# Altium integrated library Freescale Semiconductor DSC.IntLib: 124 symbols (part 1 of 7)
Pins are listed as number, name and electrical type; pins without a type are passive.

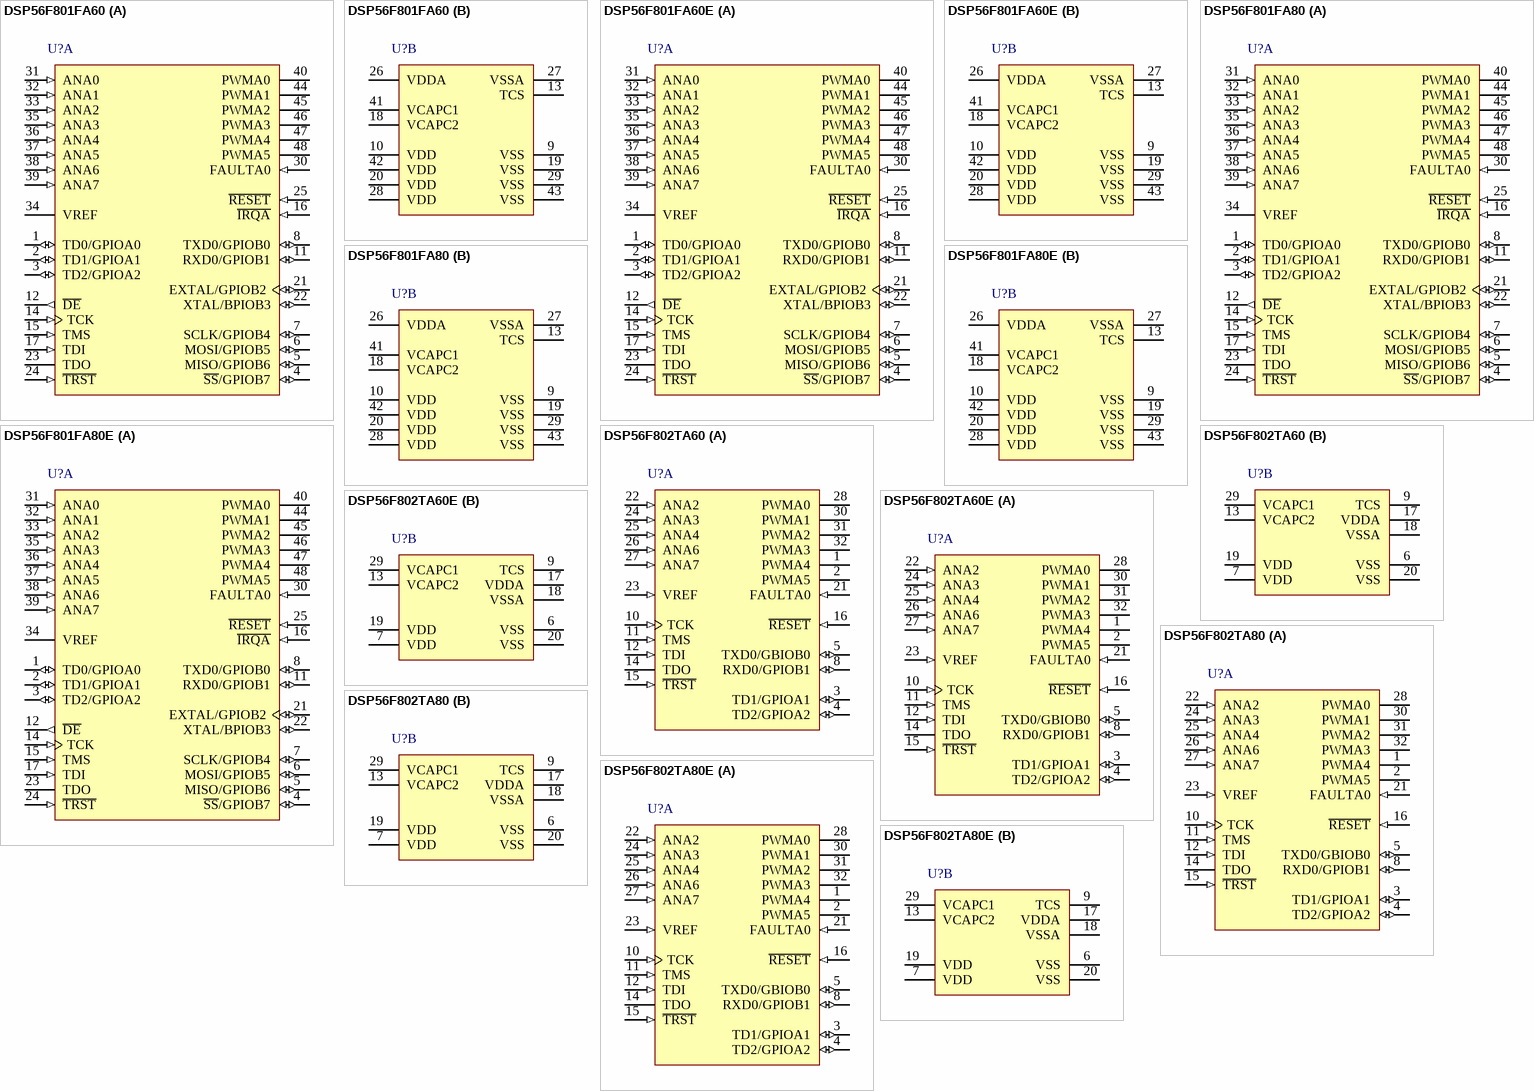
[diagram p0: symbols DSP56F801FA60 to DSP56F802TA80E]

## DSP56F801FA60
designator U?
16-Bit Digital Signal Controller, 56800E Family, 60MHZ, 16KB Flash, -40° to + 85°C, 48-LQFP; DatasheetVersion: rev17, Sep-2007; PackageVersion: revG, Apr-2005; PackageReference: 932-03; PackageDescription: LQFP, 48 Lead, 7 x 7 x 1.4mm, 0.5mm Pitch; Code_JEDEC: MS-026-BBC; ComponentLink1Description: Manufacturer URL; ComponentLink1URL: http://www.freescale.com/
footprint 932-03_N (Thin QFP, 48-Leads, Body 7x7mm, Pitch 0.5mm, IPC Medium Density)
footprint 932-03_L (Thin QFP, 48-Leads, Body 7x7mm, Pitch 0.5mm, IPC High Density)
footprint 932-03_M (Thin QFP, 48-Leads, Body 7x7mm, Pitch 0.5mm, IPC Low Density)
part A pins: 1 TD0/GPIOA0 (io), 2 TD1/GPIOA1 (io), 3 TD2/GPIOA2 (io), 4 ~{SS}/GPIOB7 (io), 5 MISO/GPIOB6 (io), 6 MOSI/GPIOB5 (io), 7 SCLK/GPIOB4 (io), 8 TXD0/GPIOB0 (io), 11 RXD0/GPIOB1 (io), 12 ~{DE} (out), 14 TCK (in), 15 TMS (in), 16 ~{IRQA} (in), 17 TDI (in), 21 EXTAL/GPIOB2 (io), 22 XTAL/BPIOB3 (io), 23 TDO (hiz), 24 ~{TRST} (in), 25 ~{RESET} (in), 30 FAULTA0 (in), 31 ANA0 (in), 32 ANA1 (in), 33 ANA2 (in), 34 VREF, 35 ANA3 (in), 36 ANA4 (in), 37 ANA5 (in), 38 ANA6 (in), 39 ANA7 (in), 40 PWMA0 (hiz), 44 PWMA1 (hiz), 45 PWMA2 (hiz), 46 PWMA3 (hiz), 47 PWMA4 (hiz), 48 PWMA5 (hiz)
part B pins: 9 VSS (power), 10 VDD (power), 13 TCS, 18 VCAPC2 (power), 19 VSS (power), 20 VDD (power), 26 VDDA (power), 27 VSSA (power), 28 VDD (power), 29 VSS (power), 41 VCAPC1 (power), 42 VDD (power), 43 VSS (power)

## DSP56F801FA60E
designator U?
16-Bit Digital Signal Controller, 56800E Family, 60MHZ, 16KB Flash, -40° to + 85°C, 48-LQFP, ROHS; DatasheetVersion: rev17, Sep-2007; PackageVersion: revG, Apr-2005; PackageReference: 932-03; PackageDescription: LQFP, 48 Lead, 7 x 7 x 1.4mm, 0.5mm Pitch; Code_JEDEC: MS-026-BBC; ComponentLink1Description: Manufacturer URL; ComponentLink1URL: http://www.freescale.com/
footprint 932-03_N (Thin QFP, 48-Leads, Body 7x7mm, Pitch 0.5mm, IPC Medium Density)
footprint 932-03_L (Thin QFP, 48-Leads, Body 7x7mm, Pitch 0.5mm, IPC High Density)
footprint 932-03_M (Thin QFP, 48-Leads, Body 7x7mm, Pitch 0.5mm, IPC Low Density)
part A pins: 1 TD0/GPIOA0 (io), 2 TD1/GPIOA1 (io), 3 TD2/GPIOA2 (io), 4 ~{SS}/GPIOB7 (io), 5 MISO/GPIOB6 (io), 6 MOSI/GPIOB5 (io), 7 SCLK/GPIOB4 (io), 8 TXD0/GPIOB0 (io), 11 RXD0/GPIOB1 (io), 12 ~{DE} (out), 14 TCK (in), 15 TMS (in), 16 ~{IRQA} (in), 17 TDI (in), 21 EXTAL/GPIOB2 (io), 22 XTAL/BPIOB3 (io), 23 TDO (hiz), 24 ~{TRST} (in), 25 ~{RESET} (in), 30 FAULTA0 (in), 31 ANA0 (in), 32 ANA1 (in), 33 ANA2 (in), 34 VREF, 35 ANA3 (in), 36 ANA4 (in), 37 ANA5 (in), 38 ANA6 (in), 39 ANA7 (in), 40 PWMA0 (hiz), 44 PWMA1 (hiz), 45 PWMA2 (hiz), 46 PWMA3 (hiz), 47 PWMA4 (hiz), 48 PWMA5 (hiz)
part B pins: 9 VSS (power), 10 VDD (power), 13 TCS, 18 VCAPC2 (power), 19 VSS (power), 20 VDD (power), 26 VDDA (power), 27 VSSA (power), 28 VDD (power), 29 VSS (power), 41 VCAPC1 (power), 42 VDD (power), 43 VSS (power)

## DSP56F801FA80
designator U?
16-Bit Digital Signal Controller, 56800E Family, 80MHZ, 16KB Flash, -40° to + 85°C, 48-LQFP; DatasheetVersion: rev17, Sep-2007; PackageVersion: revG, Apr-2005; PackageReference: 932-03; PackageDescription: LQFP, 48 Lead, 7 x 7 x 1.4mm, 0.5mm Pitch; Code_JEDEC: MS-026-BBC; ComponentLink1Description: Manufacturer URL; ComponentLink1URL: http://www.freescale.com/
footprint 932-03_N (Thin QFP, 48-Leads, Body 7x7mm, Pitch 0.5mm, IPC Medium Density)
footprint 932-03_L (Thin QFP, 48-Leads, Body 7x7mm, Pitch 0.5mm, IPC High Density)
footprint 932-03_M (Thin QFP, 48-Leads, Body 7x7mm, Pitch 0.5mm, IPC Low Density)
part A pins: 1 TD0/GPIOA0 (io), 2 TD1/GPIOA1 (io), 3 TD2/GPIOA2 (io), 4 ~{SS}/GPIOB7 (io), 5 MISO/GPIOB6 (io), 6 MOSI/GPIOB5 (io), 7 SCLK/GPIOB4 (io), 8 TXD0/GPIOB0 (io), 11 RXD0/GPIOB1 (io), 12 ~{DE} (out), 14 TCK (in), 15 TMS (in), 16 ~{IRQA} (in), 17 TDI (in), 21 EXTAL/GPIOB2 (io), 22 XTAL/BPIOB3 (io), 23 TDO (hiz), 24 ~{TRST} (in), 25 ~{RESET} (in), 30 FAULTA0 (in), 31 ANA0 (in), 32 ANA1 (in), 33 ANA2 (in), 34 VREF, 35 ANA3 (in), 36 ANA4 (in), 37 ANA5 (in), 38 ANA6 (in), 39 ANA7 (in), 40 PWMA0 (hiz), 44 PWMA1 (hiz), 45 PWMA2 (hiz), 46 PWMA3 (hiz), 47 PWMA4 (hiz), 48 PWMA5 (hiz)
part B pins: 9 VSS (power), 10 VDD (power), 13 TCS, 18 VCAPC2 (power), 19 VSS (power), 20 VDD (power), 26 VDDA (power), 27 VSSA (power), 28 VDD (power), 29 VSS (power), 41 VCAPC1 (power), 42 VDD (power), 43 VSS (power)

## DSP56F801FA80E
designator U?
16-Bit Digital Signal Controller, 56800E Family, 80MHZ, 16KB Flash, -40° to + 85°C, 48-LQFP, ROHS; DatasheetVersion: rev17, Sep-2007; PackageVersion: revG, Apr-2005; PackageReference: 932-03; PackageDescription: LQFP, 48 Lead, 7 x 7 x 1.4mm, 0.5mm Pitch; Code_JEDEC: MS-026-BBC; ComponentLink1Description: Manufacturer URL; ComponentLink1URL: http://www.freescale.com/
footprint 932-03_N (Thin QFP, 48-Leads, Body 7x7mm, Pitch 0.5mm, IPC Medium Density)
footprint 932-03_L (Thin QFP, 48-Leads, Body 7x7mm, Pitch 0.5mm, IPC High Density)
footprint 932-03_M (Thin QFP, 48-Leads, Body 7x7mm, Pitch 0.5mm, IPC Low Density)
part A pins: 1 TD0/GPIOA0 (io), 2 TD1/GPIOA1 (io), 3 TD2/GPIOA2 (io), 4 ~{SS}/GPIOB7 (io), 5 MISO/GPIOB6 (io), 6 MOSI/GPIOB5 (io), 7 SCLK/GPIOB4 (io), 8 TXD0/GPIOB0 (io), 11 RXD0/GPIOB1 (io), 12 ~{DE} (out), 14 TCK (in), 15 TMS (in), 16 ~{IRQA} (in), 17 TDI (in), 21 EXTAL/GPIOB2 (io), 22 XTAL/BPIOB3 (io), 23 TDO (hiz), 24 ~{TRST} (in), 25 ~{RESET} (in), 30 FAULTA0 (in), 31 ANA0 (in), 32 ANA1 (in), 33 ANA2 (in), 34 VREF, 35 ANA3 (in), 36 ANA4 (in), 37 ANA5 (in), 38 ANA6 (in), 39 ANA7 (in), 40 PWMA0 (hiz), 44 PWMA1 (hiz), 45 PWMA2 (hiz), 46 PWMA3 (hiz), 47 PWMA4 (hiz), 48 PWMA5 (hiz)
part B pins: 9 VSS (power), 10 VDD (power), 13 TCS, 18 VCAPC2 (power), 19 VSS (power), 20 VDD (power), 26 VDDA (power), 27 VSSA (power), 28 VDD (power), 29 VSS (power), 41 VCAPC1 (power), 42 VDD (power), 43 VSS (power)

## DSP56F802TA60
designator U?
16-Bit Digital Signal Controller, 56800E Family, 60MHZ, 16KB Flash, -40° to + 85°C, 32-LQFP; DatasheetVersion: rev9, Jan-2007; PackageVersion: rev9, Jan-2007; PackageReference: 873A-03; PackageDescription: 32-Pin Thin Quad Flat Pack, 7 x 7 mm Body, 0.8 mm Pitch; ComponentLink1Description: Manufacturer URL; ComponentLink1URL: http://www.freescale.com/
footprint 873A-03_N (Thin QFP, 32-Leads, Body 7x7mm, Pitch 0.8mm, IPC Medium Density)
footprint 873A-03_L (Thin QFP, 32-Leads, Body 7x7mm, Pitch 0.8mm, IPC High Density)
footprint 873A-03_M (Thin QFP, 32-Leads, Body 7x7mm, Pitch 0.8mm, IPC Low Density)
part A pins: 1 PWMA4 (hiz), 2 PWMA5 (hiz), 3 TD1/GPIOA1 (io), 4 TD2/GPIOA2 (io), 5 TXD0/GBIOB0 (io), 8 RXD0/GPIOB1 (io), 10 TCK (in), 11 TMS (in), 12 TDI (in), 14 TDO (hiz), 15 ~{TRST} (in), 16 ~{RESET} (in), 21 FAULTA0 (in), 22 ANA2 (in), 23 VREF (in), 24 ANA3 (in), 25 ANA4 (in), 26 ANA6 (in), 27 ANA7 (in), 28 PWMA0 (hiz), 30 PWMA1 (hiz), 31 PWMA2 (hiz), 32 PWMA3 (hiz)
part B pins: 6 VSS (power), 7 VDD (power), 9 TCS, 13 VCAPC2 (power), 17 VDDA (power), 18 VSSA (power), 19 VDD (power), 20 VSS (power), 29 VCAPC1 (power)

## DSP56F802TA60E
designator U?
16-Bit Digital Signal Controller, 56800E Family, 60MHZ, 16KB Flash, -40° to + 85°C, 32-LQFP, ROHS; DatasheetVersion: rev9, Jan-2007; PackageVersion: rev9, Jan-2007; PackageReference: 873A-03; PackageDescription: 32-Pin Thin Quad Flat Pack, 7 x 7 mm Body, 0.8 mm Pitch; ComponentLink1Description: Manufacturer URL; ComponentLink1URL: http://www.freescale.com/
footprint 873A-03_N (Thin QFP, 32-Leads, Body 7x7mm, Pitch 0.8mm, IPC Medium Density)
footprint 873A-03_L (Thin QFP, 32-Leads, Body 7x7mm, Pitch 0.8mm, IPC High Density)
footprint 873A-03_M (Thin QFP, 32-Leads, Body 7x7mm, Pitch 0.8mm, IPC Low Density)
part A pins: 1 PWMA4 (hiz), 2 PWMA5 (hiz), 3 TD1/GPIOA1 (io), 4 TD2/GPIOA2 (io), 5 TXD0/GBIOB0 (io), 8 RXD0/GPIOB1 (io), 10 TCK (in), 11 TMS (in), 12 TDI (in), 14 TDO (hiz), 15 ~{TRST} (in), 16 ~{RESET} (in), 21 FAULTA0 (in), 22 ANA2 (in), 23 VREF (in), 24 ANA3 (in), 25 ANA4 (in), 26 ANA6 (in), 27 ANA7 (in), 28 PWMA0 (hiz), 30 PWMA1 (hiz), 31 PWMA2 (hiz), 32 PWMA3 (hiz)
part B pins: 6 VSS (power), 7 VDD (power), 9 TCS, 13 VCAPC2 (power), 17 VDDA (power), 18 VSSA (power), 19 VDD (power), 20 VSS (power), 29 VCAPC1 (power)

## DSP56F802TA80
designator U?
16-Bit Digital Signal Controller, 56800E Family, 80MHZ, 16KB Flash, -40° to + 85°C, 32-LQFP; DatasheetVersion: rev9, Jan-2007; PackageVersion: rev9, Jan-2007; PackageReference: 873A-03; PackageDescription: 32-Pin Thin Quad Flat Pack, 7 x 7 mm Body, 0.8 mm Pitch; ComponentLink1Description: Manufacturer URL; ComponentLink1URL: http://www.freescale.com/
footprint 873A-03_N (Thin QFP, 32-Leads, Body 7x7mm, Pitch 0.8mm, IPC Medium Density)
footprint 873A-03_L (Thin QFP, 32-Leads, Body 7x7mm, Pitch 0.8mm, IPC High Density)
footprint 873A-03_M (Thin QFP, 32-Leads, Body 7x7mm, Pitch 0.8mm, IPC Low Density)
part A pins: 1 PWMA4 (hiz), 2 PWMA5 (hiz), 3 TD1/GPIOA1 (io), 4 TD2/GPIOA2 (io), 5 TXD0/GBIOB0 (io), 8 RXD0/GPIOB1 (io), 10 TCK (in), 11 TMS (in), 12 TDI (in), 14 TDO (hiz), 15 ~{TRST} (in), 16 ~{RESET} (in), 21 FAULTA0 (in), 22 ANA2 (in), 23 VREF (in), 24 ANA3 (in), 25 ANA4 (in), 26 ANA6 (in), 27 ANA7 (in), 28 PWMA0 (hiz), 30 PWMA1 (hiz), 31 PWMA2 (hiz), 32 PWMA3 (hiz)
part B pins: 6 VSS (power), 7 VDD (power), 9 TCS, 13 VCAPC2 (power), 17 VDDA (power), 18 VSSA (power), 19 VDD (power), 20 VSS (power), 29 VCAPC1 (power)

## DSP56F802TA80E
designator U?
16-Bit Digital Signal Controller, 56800E Family, 80MHZ, 16KB Flash, -40° to + 85°C, 32-LQFP, ROHS; DatasheetVersion: rev9, Jan-2007; PackageVersion: rev9, Jan-2007; PackageReference: 873A-03; PackageDescription: 32-Pin Thin Quad Flat Pack, 7 x 7 mm Body, 0.8 mm Pitch; ComponentLink1Description: Manufacturer URL; ComponentLink1URL: http://www.freescale.com/
footprint 873A-03_N (Thin QFP, 32-Leads, Body 7x7mm, Pitch 0.8mm, IPC Medium Density)
footprint 873A-03_L (Thin QFP, 32-Leads, Body 7x7mm, Pitch 0.8mm, IPC High Density)
footprint 873A-03_M (Thin QFP, 32-Leads, Body 7x7mm, Pitch 0.8mm, IPC Low Density)
part A pins: 1 PWMA4 (hiz), 2 PWMA5 (hiz), 3 TD1/GPIOA1 (io), 4 TD2/GPIOA2 (io), 5 TXD0/GBIOB0 (io), 8 RXD0/GPIOB1 (io), 10 TCK (in), 11 TMS (in), 12 TDI (in), 14 TDO (hiz), 15 ~{TRST} (in), 16 ~{RESET} (in), 21 FAULTA0 (in), 22 ANA2 (in), 23 VREF (in), 24 ANA3 (in), 25 ANA4 (in), 26 ANA6 (in), 27 ANA7 (in), 28 PWMA0 (hiz), 30 PWMA1 (hiz), 31 PWMA2 (hiz), 32 PWMA3 (hiz)
part B pins: 6 VSS (power), 7 VDD (power), 9 TCS, 13 VCAPC2 (power), 17 VDDA (power), 18 VSSA (power), 19 VDD (power), 20 VSS (power), 29 VCAPC1 (power)

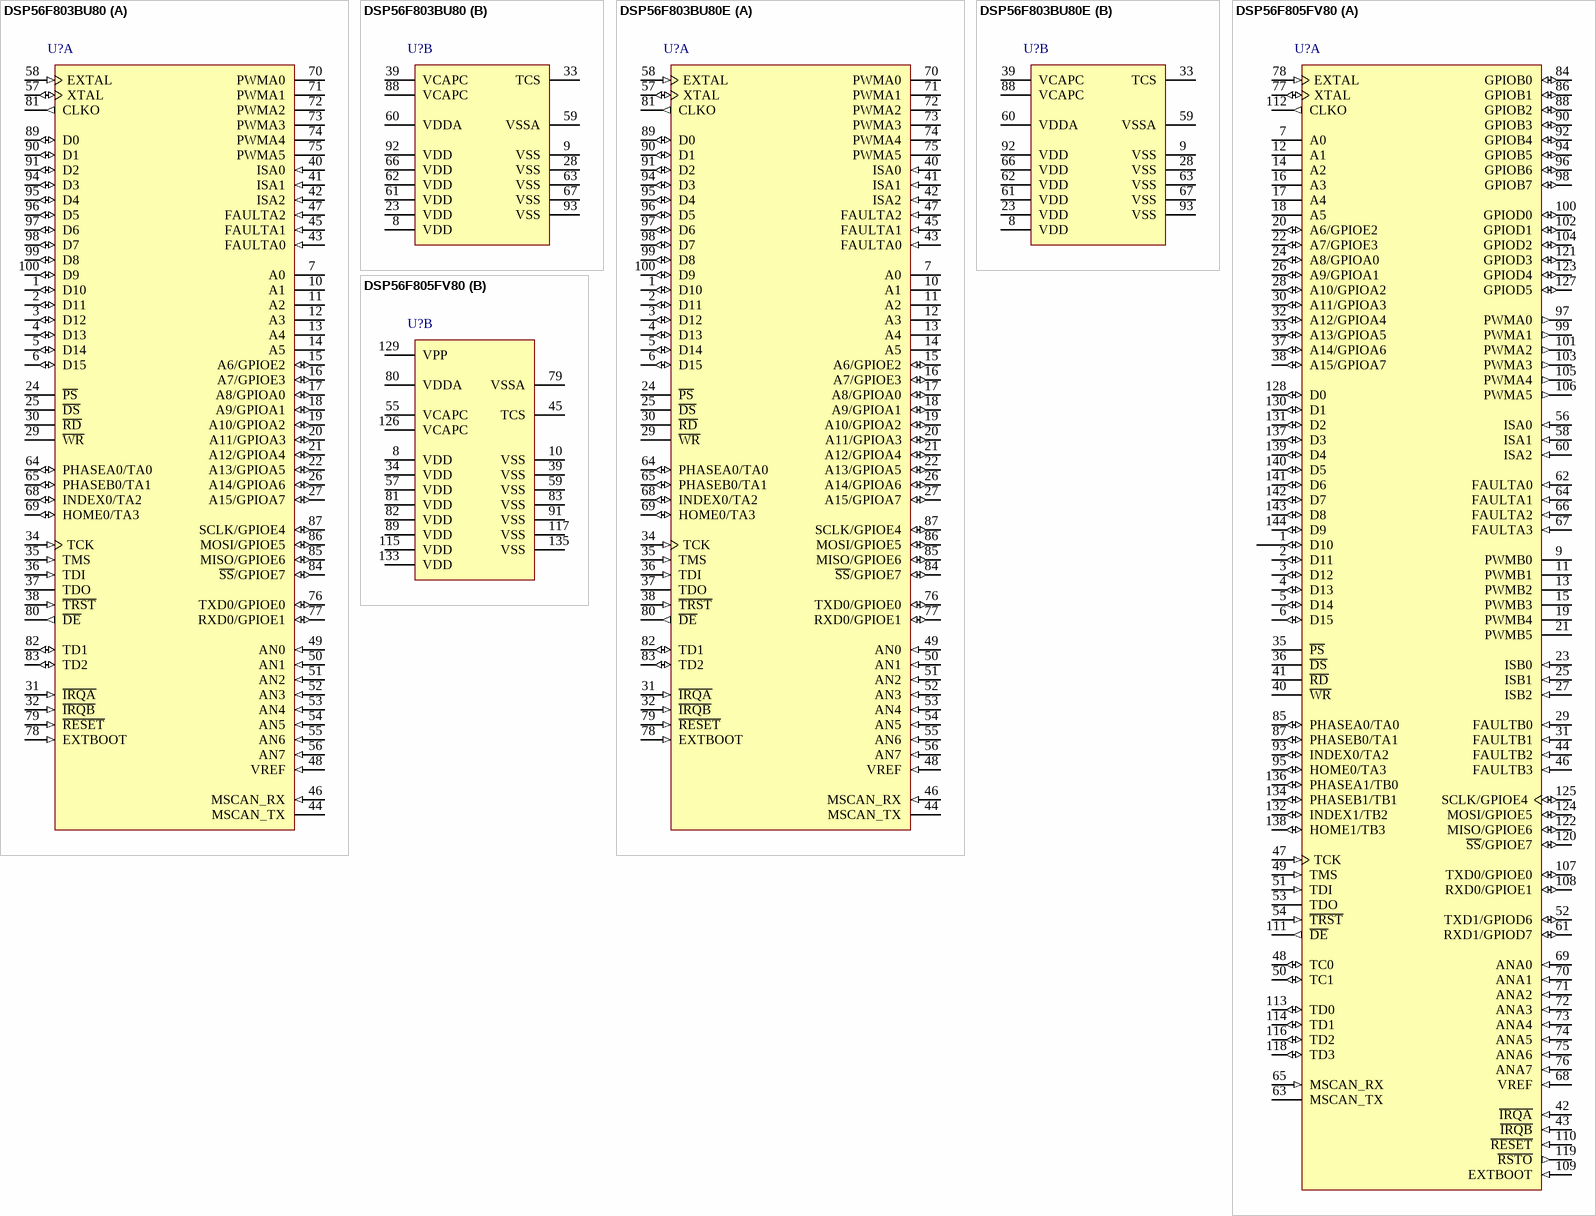
[diagram p1: symbols DSP56F803BU80 to DSP56F805FV80]

## DSP56F803BU80
designator U?
16-Bit Digital Signal Controller, 56800E Family, 80MHZ, 64KB Flash, -40° to + 85°C, 100-LQFP; DatasheetVersion: rev16, Sep-2007; PackageVersion: rev4, Jan-2002; PackageReference: 842F-01; PackageDescription: 100-Pin Thin Quad Flat Pack 0.5 mm Pitch; ComponentLink1Description: Manufacturer URL; ComponentLink1URL: http://www.freescale.com/
footprint 842F-01_N (Thin QFP, 100-Leads, Body 14x14mm, Pitch 0.5mm, IPC Medium Density)
footprint 842F-01_L (Thin QFP, 100-Leads, Body 14x14mm, Pitch 0.5mm, IPC High Density)
footprint 842F-01_M (Thin QFP, 100-Leads, Body 14x14mm, Pitch 0.5mm, IPC Low Density)
part A pins: 1 D10 (io), 2 D11 (io), 3 D12 (io), 4 D13 (io), 5 D14 (io), 6 D15 (io), 7 A0 (hiz), 10 A1 (hiz), 11 A2 (hiz), 12 A3 (hiz), 13 A4 (hiz), 14 A5 (hiz), 15 A6/GPIOE2 (io), 16 A7/GPIOE3 (io), 17 A8/GPIOA0 (io), 18 A9/GPIOA1 (io), 19 A10/GPIOA2 (io), 20 A11/GPIOA3 (io), 21 A12/GPIOA4 (io), 22 A13/GPIOA5 (io), 24 ~{PS} (hiz), 25 ~{DS} (hiz), 26 A14/GPIOA6 (io), 27 A15/GPIOA7 (io), 29 ~{WR} (hiz), 30 ~{RD} (hiz), 31 ~{IRQA} (in), 32 ~{IRQB} (in), 34 TCK (in), 35 TMS (in), 36 TDI (in), 37 TDO (hiz), 38 ~{TRST} (in), 40 ISA0 (in), 41 ISA1 (in), 42 ISA2 (in), 43 FAULTA0 (in), 44 MSCAN_TX (oc), 45 FAULTA1 (in), 46 MSCAN_RX (in), 47 FAULTA2 (in), 48 VREF (in), 49 AN0 (in), 50 AN1 (in), 51 AN2 (in), 52 AN3 (in), 53 AN4 (in), 54 AN5 (in), 55 AN6 (in), 56 AN7 (in), 57 XTAL (io), 58 EXTAL (in), 64 PHASEA0/TA0 (io), 65 PHASEB0/TA1 (io), 68 INDEX0/TA2 (io), 69 HOME0/TA3 (io), 70 PWMA0 (hiz), 71 PWMA1 (hiz), 72 PWMA2 (hiz), 73 PWMA3 (hiz), 74 PWMA4 (hiz), 75 PWMA5 (hiz), 76 TXD0/GPIOE0 (io), 77 RXD0/GPIOE1 (io), 78 EXTBOOT (in), 79 ~{RESET} (in), 80 ~{DE} (out), 81 CLKO (out), 82 TD1 (io), 83 TD2 (io), 84 ~{SS}/GPIOE7 (io), 85 MISO/GPIOE6 (io), 86 MOSI/GPIOE5 (io), 87 SCLK/GPIOE4 (io), 89 D0 (io), 90 D1 (io), 91 D2 (io), 94 D3 (io), 95 D4 (io), 96 D5 (io), 97 D6 (io), 98 D7 (io), 99 D8 (io), 100 D9 (io)
part B pins: 8 VDD (power), 9 VSS (power), 23 VDD (power), 28 VSS (power), 33 TCS, 39 VCAPC (power), 59 VSSA (power), 60 VDDA (power), 61 VDD (power), 62 VDD (power), 63 VSS (power), 66 VDD (power), 67 VSS (power), 88 VCAPC (power), 92 VDD (power), 93 VSS (power)

## DSP56F803BU80E
designator U?
16-Bit Digital Signal Controller, 56800E Family, 80MHZ, 64KB Flash, -40° to + 85°C, 100-LQFP, ROHS; DatasheetVersion: rev16, Sep-2007; PackageVersion: rev4, Jan-2002; PackageReference: 842F-01; PackageDescription: 100-Pin Thin Quad Flat Pack 0.5 mm Pitch; ComponentLink1Description: Manufacturer URL; ComponentLink1URL: http://www.freescale.com/
footprint 842F-01_N (Thin QFP, 100-Leads, Body 14x14mm, Pitch 0.5mm, IPC Medium Density)
footprint 842F-01_L (Thin QFP, 100-Leads, Body 14x14mm, Pitch 0.5mm, IPC High Density)
footprint 842F-01_M (Thin QFP, 100-Leads, Body 14x14mm, Pitch 0.5mm, IPC Low Density)
part A pins: 1 D10 (io), 2 D11 (io), 3 D12 (io), 4 D13 (io), 5 D14 (io), 6 D15 (io), 7 A0 (hiz), 10 A1 (hiz), 11 A2 (hiz), 12 A3 (hiz), 13 A4 (hiz), 14 A5 (hiz), 15 A6/GPIOE2 (io), 16 A7/GPIOE3 (io), 17 A8/GPIOA0 (io), 18 A9/GPIOA1 (io), 19 A10/GPIOA2 (io), 20 A11/GPIOA3 (io), 21 A12/GPIOA4 (io), 22 A13/GPIOA5 (io), 24 ~{PS} (hiz), 25 ~{DS} (hiz), 26 A14/GPIOA6 (io), 27 A15/GPIOA7 (io), 29 ~{WR} (hiz), 30 ~{RD} (hiz), 31 ~{IRQA} (in), 32 ~{IRQB} (in), 34 TCK (in), 35 TMS (in), 36 TDI (in), 37 TDO (hiz), 38 ~{TRST} (in), 40 ISA0 (in), 41 ISA1 (in), 42 ISA2 (in), 43 FAULTA0 (in), 44 MSCAN_TX (oc), 45 FAULTA1 (in), 46 MSCAN_RX (in), 47 FAULTA2 (in), 48 VREF (in), 49 AN0 (in), 50 AN1 (in), 51 AN2 (in), 52 AN3 (in), 53 AN4 (in), 54 AN5 (in), 55 AN6 (in), 56 AN7 (in), 57 XTAL (io), 58 EXTAL (in), 64 PHASEA0/TA0 (io), 65 PHASEB0/TA1 (io), 68 INDEX0/TA2 (io), 69 HOME0/TA3 (io), 70 PWMA0 (hiz), 71 PWMA1 (hiz), 72 PWMA2 (hiz), 73 PWMA3 (hiz), 74 PWMA4 (hiz), 75 PWMA5 (hiz), 76 TXD0/GPIOE0 (io), 77 RXD0/GPIOE1 (io), 78 EXTBOOT (in), 79 ~{RESET} (in), 80 ~{DE} (out), 81 CLKO (out), 82 TD1 (io), 83 TD2 (io), 84 ~{SS}/GPIOE7 (io), 85 MISO/GPIOE6 (io), 86 MOSI/GPIOE5 (io), 87 SCLK/GPIOE4 (io), 89 D0 (io), 90 D1 (io), 91 D2 (io), 94 D3 (io), 95 D4 (io), 96 D5 (io), 97 D6 (io), 98 D7 (io), 99 D8 (io), 100 D9 (io)
part B pins: 8 VDD (power), 9 VSS (power), 23 VDD (power), 28 VSS (power), 33 TCS, 39 VCAPC (power), 59 VSSA (power), 60 VDDA (power), 61 VDD (power), 62 VDD (power), 63 VSS (power), 66 VDD (power), 67 VSS (power), 88 VCAPC (power), 92 VDD (power), 93 VSS (power)

## DSP56F805FV80
designator U?
16-Bit Digital Signal Controller, 56800E Family, 80MHZ, 64KB Flash, -40° to + 85°C, 144-LQFP; DatasheetVersion: rev16, Sep-2007; PackageVersion: revG, Nov-2009; PackageReference: 918-03; PackageDescription: 144-Pin Thin Quad Flat Pack, 20 x 20 mm Body, 0.5 mm Pitch; ComponentLink1Description: Manufacturer URL; ComponentLink1URL: http://www.freescale.com/
footprint 918-03_N (Thin QFP, 144-Leads, Body 20x20mm, Pitch 0.5mm, IPC Medium Density)
footprint 918-03_L (Thin QFP, 144-Leads, Body 20x20mm, Pitch 0.5mm, IPC High Density)
footprint 918-03_M (Thin QFP, 144-Leads, Body 20x20mm, Pitch 0.5mm, IPC Low Density)
part A pins: 1 D10 (io), 2 D11 (io), 3 D12 (io), 4 D13 (io), 5 D14 (io), 6 D15 (io), 7 A0 (hiz), 9 PWMB0 (hiz), 11 PWMB1 (hiz), 12 A1 (hiz), 13 PWMB2 (hiz), 14 A2 (hiz), 15 PWMB3 (hiz), 16 A3 (hiz), 17 A4 (hiz), 18 A5 (hiz), 19 PWMB4 (hiz), 20 A6/GPIOE2 (io), 21 PWMB5 (hiz), 22 A7/GPIOE3 (io), 23 ISB0 (in), 24 A8/GPIOA0 (io), 25 ISB1 (in), 26 A9/GPIOA1 (io), 27 ISB2 (in), 28 A10/GPIOA2 (io), 29 FAULTB0 (in), 30 A11/GPIOA3 (io), 31 FAULTB1 (in), 32 A12/GPIOA4 (io), 33 A13/GPIOA5 (io), 35 ~{PS} (hiz), 36 ~{DS} (hiz), 37 A14/GPIOA6 (io), 38 A15/GPIOA7 (io), 40 ~{WR} (hiz), 41 ~{RD} (hiz), 42 ~{IRQA} (in), 43 ~{IRQB} (in), 44 FAULTB2 (in), 46 FAULTB3 (in), 47 TCK (in), 48 TC0 (io), 49 TMS (in), 50 TC1 (io), 51 TDI (in), 52 TXD1/GPIOD6 (io), 53 TDO (hiz), 54 ~{TRST} (in), 56 ISA0 (in), 58 ISA1 (in), 60 ISA2 (in), 61 RXD1/GPIOD7 (io), 62 FAULTA0 (in), 63 MSCAN_TX (oc), 64 FAULTA1 (in), 65 MSCAN_RX (in), 66 FAULTA2 (in), 67 FAULTA3 (in), 68 VREF (in), 69 ANA0 (in), 70 ANA1 (in), 71 ANA2 (in), 72 ANA3 (in), 73 ANA4 (in), 74 ANA5 (in), 75 ANA6 (in), 76 ANA7 (in), 77 XTAL (io), 78 EXTAL (in), 84 GPIOB0 (io), 85 PHASEA0/TA0 (io), 86 GPIOB1 (io), 87 PHASEB0/TA1 (io), 88 GPIOB2 (io), 90 GPIOB3 (io), 92 GPIOB4 (io), 93 INDEX0/TA2 (io), 94 GPIOB5 (io), 95 HOME0/TA3 (io), 96 GPIOB6 (io), 97 PWMA0 (out), 98 GPIOB7 (io), 99 PWMA1 (out), 100 GPIOD0 (io), 101 PWMA2 (out), 102 GPIOD1 (io), 103 PWMA3 (out), 104 GPIOD2 (io), 105 PWMA4 (out), 106 PWMA5 (out), 107 TXD0/GPIOE0 (io), 108 RXD0/GPIOE1 (io), 109 EXTBOOT (in), 110 ~{RESET} (in), 111 ~{DE} (out), 112 CLKO (out), 113 TD0 (io), 114 TD1 (io), 116 TD2 (io), 118 TD3 (io), 119 ~{RSTO} (out), 120 ~{SS}/GPIOE7 (io), 121 GPIOD3 (io), 122 MISO/GPIOE6 (io), 123 GPIOD4 (io), 124 MOSI/GPIOE5 (io), 125 SCLK/GPIOE4 (io), 127 GPIOD5 (io), 128 D0 (io), 130 D1 (io), 131 D2 (io), 132 INDEX1/TB2 (io), 134 PHASEB1/TB1 (io), 136 PHASEA1/TB0 (io), 137 D3 (io), 138 HOME1/TB3 (io), 139 D4 (io), 140 D5 (io), 141 D6 (io), 142 D7 (io), 143 D8 (io), 144 D9 (io)
part B pins: 8 VDD (power), 10 VSS (power), 34 VDD (power), 39 VSS (power), 45 TCS, 55 VCAPC (power), 57 VDD (power), 59 VSS (power), 79 VSSA (power), 80 VDDA (power), 81 VDD (power), 82 VDD (power), 83 VSS (power), 89 VDD (power), 91 VSS (power), 115 VDD (power), 117 VSS (power), 126 VCAPC (power), 129 VPP, 133 VDD (power), 135 VSS (power)

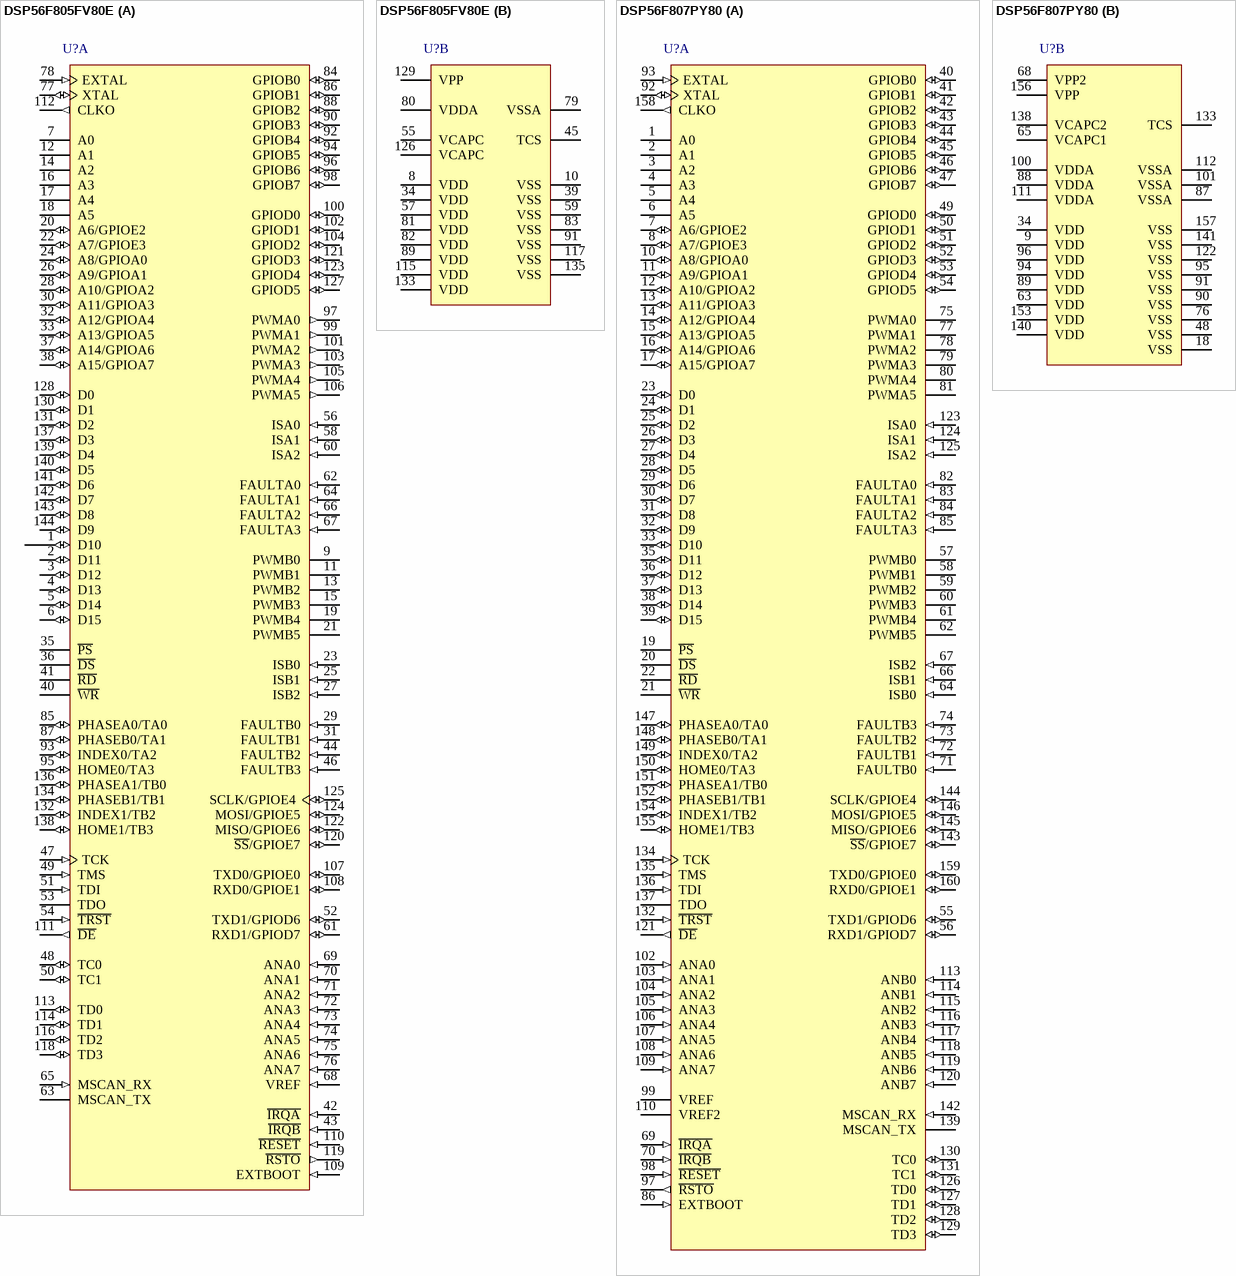
[diagram p2: symbols DSP56F805FV80E to DSP56F807PY80]

## DSP56F805FV80E
designator U?
16-Bit Digital Signal Controller, 56800E Family, 80MHZ, 64KB Flash, -40° to + 85°C, 144-LQFP, ROHS; DatasheetVersion: rev16, Sep-2007; PackageVersion: revG, Nov-2009; PackageReference: 918-03; PackageDescription: 144-Pin Thin Quad Flat Pack, 20 x 20 mm Body, 0.5 mm Pitch; ComponentLink1Description: Manufacturer URL; ComponentLink1URL: http://www.freescale.com/
footprint 918-03_N (Thin QFP, 144-Leads, Body 20x20mm, Pitch 0.5mm, IPC Medium Density)
footprint 918-03_L (Thin QFP, 144-Leads, Body 20x20mm, Pitch 0.5mm, IPC High Density)
footprint 918-03_M (Thin QFP, 144-Leads, Body 20x20mm, Pitch 0.5mm, IPC Low Density)
part A pins: 1 D10 (io), 2 D11 (io), 3 D12 (io), 4 D13 (io), 5 D14 (io), 6 D15 (io), 7 A0 (hiz), 9 PWMB0 (hiz), 11 PWMB1 (hiz), 12 A1 (hiz), 13 PWMB2 (hiz), 14 A2 (hiz), 15 PWMB3 (hiz), 16 A3 (hiz), 17 A4 (hiz), 18 A5 (hiz), 19 PWMB4 (hiz), 20 A6/GPIOE2 (io), 21 PWMB5 (hiz), 22 A7/GPIOE3 (io), 23 ISB0 (in), 24 A8/GPIOA0 (io), 25 ISB1 (in), 26 A9/GPIOA1 (io), 27 ISB2 (in), 28 A10/GPIOA2 (io), 29 FAULTB0 (in), 30 A11/GPIOA3 (io), 31 FAULTB1 (in), 32 A12/GPIOA4 (io), 33 A13/GPIOA5 (io), 35 ~{PS} (hiz), 36 ~{DS} (hiz), 37 A14/GPIOA6 (io), 38 A15/GPIOA7 (io), 40 ~{WR} (hiz), 41 ~{RD} (hiz), 42 ~{IRQA} (in), 43 ~{IRQB} (in), 44 FAULTB2 (in), 46 FAULTB3 (in), 47 TCK (in), 48 TC0 (io), 49 TMS (in), 50 TC1 (io), 51 TDI (in), 52 TXD1/GPIOD6 (io), 53 TDO (hiz), 54 ~{TRST} (in), 56 ISA0 (in), 58 ISA1 (in), 60 ISA2 (in), 61 RXD1/GPIOD7 (io), 62 FAULTA0 (in), 63 MSCAN_TX (oc), 64 FAULTA1 (in), 65 MSCAN_RX (in), 66 FAULTA2 (in), 67 FAULTA3 (in), 68 VREF (in), 69 ANA0 (in), 70 ANA1 (in), 71 ANA2 (in), 72 ANA3 (in), 73 ANA4 (in), 74 ANA5 (in), 75 ANA6 (in), 76 ANA7 (in), 77 XTAL (io), 78 EXTAL (in), 84 GPIOB0 (io), 85 PHASEA0/TA0 (io), 86 GPIOB1 (io), 87 PHASEB0/TA1 (io), 88 GPIOB2 (io), 90 GPIOB3 (io), 92 GPIOB4 (io), 93 INDEX0/TA2 (io), 94 GPIOB5 (io), 95 HOME0/TA3 (io), 96 GPIOB6 (io), 97 PWMA0 (out), 98 GPIOB7 (io), 99 PWMA1 (out), 100 GPIOD0 (io), 101 PWMA2 (out), 102 GPIOD1 (io), 103 PWMA3 (out), 104 GPIOD2 (io), 105 PWMA4 (out), 106 PWMA5 (out), 107 TXD0/GPIOE0 (io), 108 RXD0/GPIOE1 (io), 109 EXTBOOT (in), 110 ~{RESET} (in), 111 ~{DE} (out), 112 CLKO (out), 113 TD0 (io), 114 TD1 (io), 116 TD2 (io), 118 TD3 (io), 119 ~{RSTO} (out), 120 ~{SS}/GPIOE7 (io), 121 GPIOD3 (io), 122 MISO/GPIOE6 (io), 123 GPIOD4 (io), 124 MOSI/GPIOE5 (io), 125 SCLK/GPIOE4 (io), 127 GPIOD5 (io), 128 D0 (io), 130 D1 (io), 131 D2 (io), 132 INDEX1/TB2 (io), 134 PHASEB1/TB1 (io), 136 PHASEA1/TB0 (io), 137 D3 (io), 138 HOME1/TB3 (io), 139 D4 (io), 140 D5 (io), 141 D6 (io), 142 D7 (io), 143 D8 (io), 144 D9 (io)
part B pins: 8 VDD (power), 10 VSS (power), 34 VDD (power), 39 VSS (power), 45 TCS, 55 VCAPC (power), 57 VDD (power), 59 VSS (power), 79 VSSA (power), 80 VDDA (power), 81 VDD (power), 82 VDD (power), 83 VSS (power), 89 VDD (power), 91 VSS (power), 115 VDD (power), 117 VSS (power), 126 VCAPC (power), 129 VPP, 133 VDD (power), 135 VSS (power)

## DSP56F807PY80
designator U?
16-Bit Digital Signal Controller, 56800E Family, 80MHZ, 120KB Flash, -40° to + 85°C, 160-LQFP; DatasheetVersion: rev16, Sep-2007; PackageVersion: rev7, Jan-2002; PackageReference: 1259-01; PackageDescription: 160-Pin Thin Quad Flat Pack 0.5 mm Pitch; ComponentLink1Description: Manufacturer URL; ComponentLink1URL: http://www.freescale.com/
footprint 1259-01_N (Thin QFP, 160-Leads, Body 24x24mm, Pitch 0.5mm, IPC Medium Density)
footprint 1259-01_L (Thin QFP, 160-Leads, Body 24x24mm, Pitch 0.5mm, IPC High Density)
footprint 1259-01_M (Thin QFP, 160-Leads, Body 24x24mm, Pitch 0.5mm, IPC Low Density)
part A pins: 1 A0 (hiz), 2 A1 (hiz), 3 A2 (hiz), 4 A3 (hiz), 5 A4 (hiz), 6 A5 (hiz), 7 A6/GPIOE2 (io), 8 A7/GPIOE3 (io), 10 A8/GPIOA0 (io), 11 A9/GPIOA1 (io), 12 A10/GPIOA2 (io), 13 A11/GPIOA3 (io), 14 A12/GPIOA4 (io), 15 A13/GPIOA5 (io), 16 A14/GPIOA6 (io), 17 A15/GPIOA7 (io), 19 ~{PS} (hiz), 20 ~{DS} (hiz), 21 ~{WR} (hiz), 22 ~{RD} (hiz), 23 D0 (io), 24 D1 (io), 25 D2 (io), 26 D3 (io), 27 D4 (io), 28 D5 (io), 29 D6 (io), 30 D7 (io), 31 D8 (io), 32 D9 (io), 33 D10 (io), 35 D11 (io), 36 D12 (io), 37 D13 (io), 38 D14 (io), 39 D15 (io), 40 GPIOB0 (io), 41 GPIOB1 (io), 42 GPIOB2 (io), 43 GPIOB3 (io), 44 GPIOB4 (io), 45 GPIOB5 (io), 46 GPIOB6 (io), 47 GPIOB7 (io), 49 GPIOD0 (io), 50 GPIOD1 (io), 51 GPIOD2 (io), 52 GPIOD3 (io), 53 GPIOD4 (io), 54 GPIOD5 (io), 55 TXD1/GPIOD6 (io), 56 RXD1/GPIOD7 (io), 57 PWMB0 (hiz), 58 PWMB1 (hiz), 59 PWMB2 (hiz), 60 PWMB3 (hiz), 61 PWMB4 (hiz), 62 PWMB5 (hiz), 64 ISB0 (in), 66 ISB1 (in), 67 ISB2 (in), 69 ~{IRQA} (in), 70 ~{IRQB} (in), 71 FAULTB0 (in), 72 FAULTB1 (in), 73 FAULTB2 (in), 74 FAULTB3 (in), 75 PWMA0 (hiz), 77 PWMA1 (hiz), 78 PWMA2 (hiz), 79 PWMA3 (hiz), 80 PWMA4 (hiz), 81 PWMA5 (hiz), 82 FAULTA0 (in), 83 FAULTA1 (in), 84 FAULTA2 (in), 85 FAULTA3 (in), 86 EXTBOOT (in), 92 XTAL (io), 93 EXTAL (in), 97 ~{RSTO} (out), 98 ~{RESET} (in), 99 VREF, 102 ANA0 (in), 103 ANA1 (in), 104 ANA2 (in), 105 ANA3 (in), 106 ANA4 (in), 107 ANA5 (in), 108 ANA6 (in), 109 ANA7 (in), 110 VREF2, 113 ANB0 (in), 114 ANB1 (in), 115 ANB2 (in), 116 ANB3 (in), 117 ANB4 (in), 118 ANB5 (in), 119 ANB6 (in), 120 ANB7 (in), 121 ~{DE} (out), 123 ISA0 (in), 124 ISA1 (in), 125 ISA2 (in), 126 TD0 (io), 127 TD1 (io), 128 TD2 (io), 129 TD3 (io), 130 TC0 (io), 131 TC1 (io), 132 ~{TRST} (in), 134 TCK (in), 135 TMS (in), 136 TDI (in), 137 TDO (hiz), 139 MSCAN_TX (oc), 142 MSCAN_RX (in), 143 ~{SS}/GPIOE7 (io), 144 SCLK/GPIOE4 (io), 145 MISO/GPIOE6 (io), 146 MOSI/GPIOE5 (io), 147 PHASEA0/TA0 (io), 148 PHASEB0/TA1 (io), 149 INDEX0/TA2 (io), 150 HOME0/TA3 (io), 151 PHASEA1/TB0 (io), 152 PHASEB1/TB1 (io), 154 INDEX1/TB2 (io), 155 HOME1/TB3 (io), 158 CLKO (out), 159 TXD0/GPIOE0 (io), 160 RXD0/GPIOE1 (io)
part B pins: 9 VDD (power), 18 VSS (power), 34 VDD (power), 48 VSS (power), 63 VDD (power), 65 VCAPC1 (power), 68 VPP2, 76 VSS (power), 87 VSSA (power), 88 VDDA (power), 89 VDD (power), 90 VSS (power), 91 VSS (power), 94 VDD (power), 95 VSS (power), 96 VDD (power), 100 VDDA (power), 101 VSSA (power), 111 VDDA (power), 112 VSSA (power), 122 VSS (power), 133 TCS, 138 VCAPC2 (power), 140 VDD (power), 141 VSS (power), 153 VDD (power), 156 VPP, 157 VSS (power)

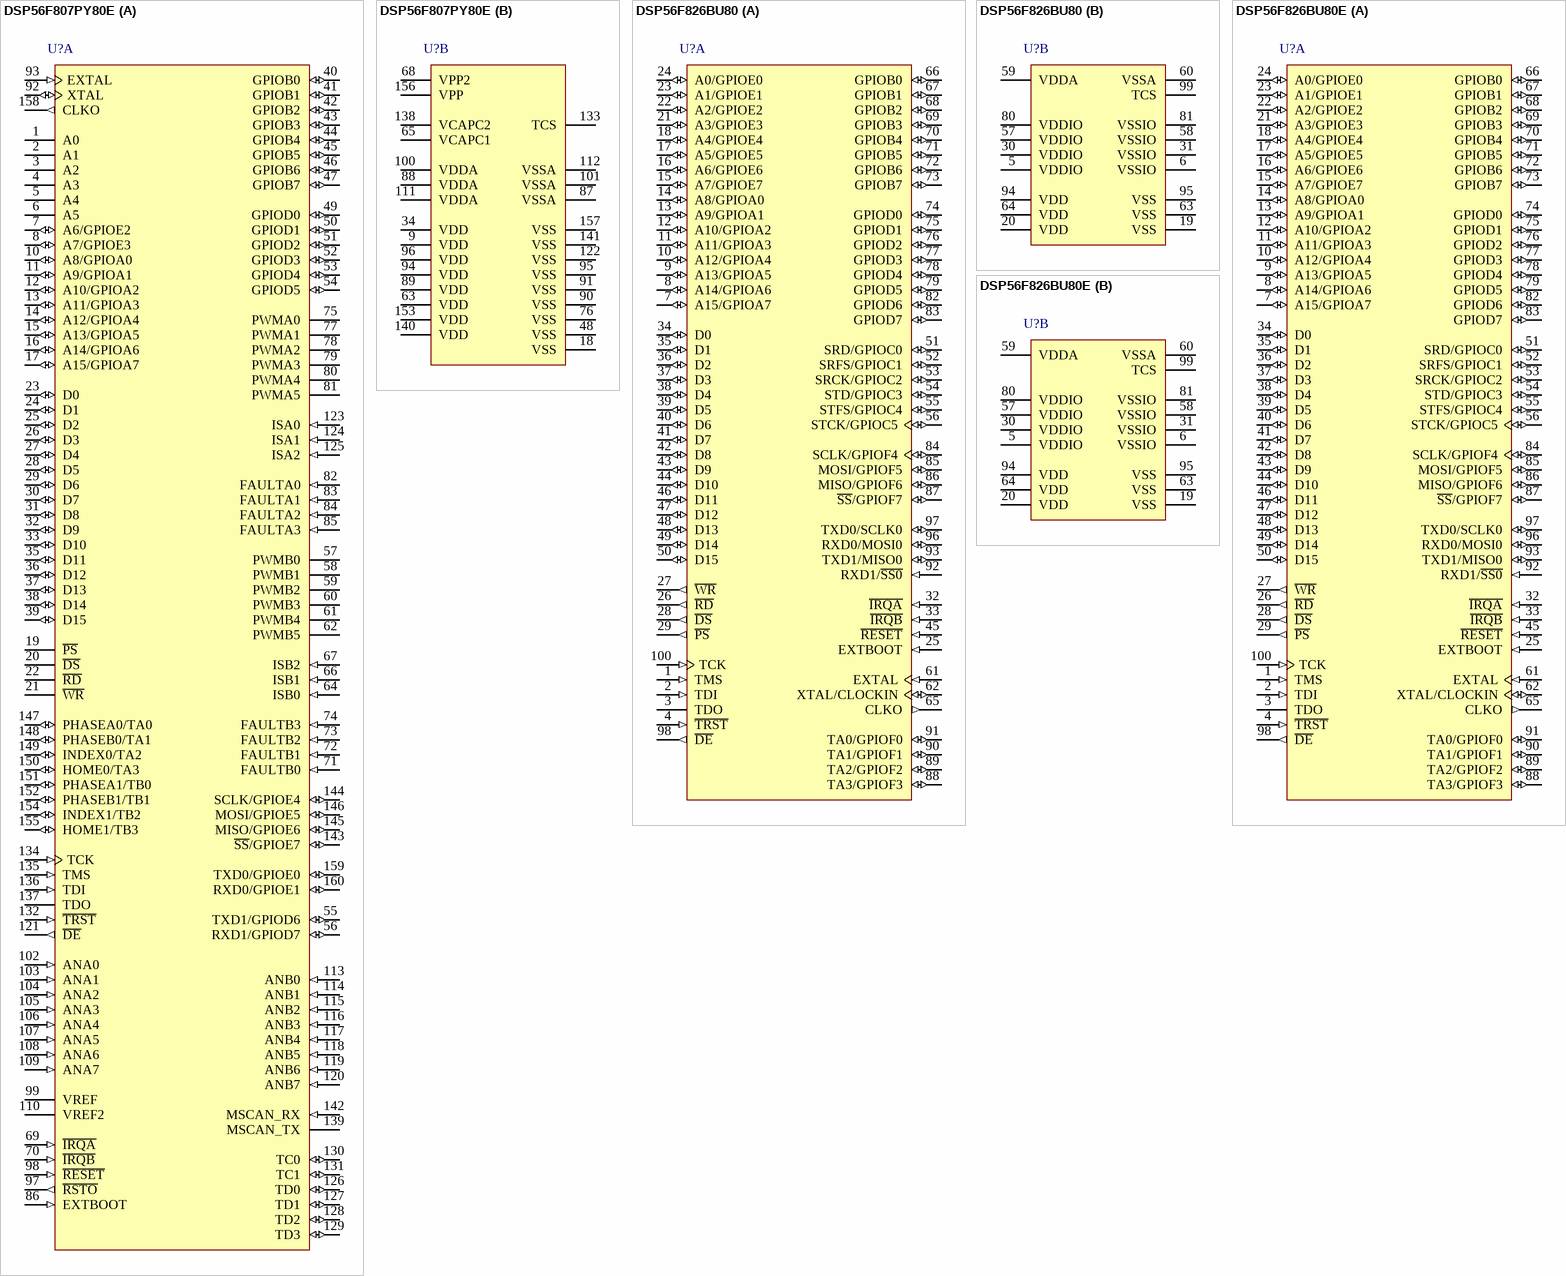
[diagram p3: symbols DSP56F807PY80E to DSP56F826BU80E]

## DSP56F807PY80E
designator U?
16-Bit Digital Signal Controller, 56800E Family, 80MHZ, 120KB Flash, -40° to + 85°C, 160-LQFP, ROHS; DatasheetVersion: rev16, Sep-2007; PackageVersion: rev7, Jan-2002; PackageReference: 1259-01; PackageDescription: 160-Pin Thin Quad Flat Pack 0.5 mm Pitch; ComponentLink1Description: Manufacturer URL; ComponentLink1URL: http://www.freescale.com/
footprint 1259-01_N (Thin QFP, 160-Leads, Body 24x24mm, Pitch 0.5mm, IPC Medium Density)
footprint 1259-01_L (Thin QFP, 160-Leads, Body 24x24mm, Pitch 0.5mm, IPC High Density)
footprint 1259-01_M (Thin QFP, 160-Leads, Body 24x24mm, Pitch 0.5mm, IPC Low Density)
part A pins: 1 A0 (hiz), 2 A1 (hiz), 3 A2 (hiz), 4 A3 (hiz), 5 A4 (hiz), 6 A5 (hiz), 7 A6/GPIOE2 (io), 8 A7/GPIOE3 (io), 10 A8/GPIOA0 (io), 11 A9/GPIOA1 (io), 12 A10/GPIOA2 (io), 13 A11/GPIOA3 (io), 14 A12/GPIOA4 (io), 15 A13/GPIOA5 (io), 16 A14/GPIOA6 (io), 17 A15/GPIOA7 (io), 19 ~{PS} (hiz), 20 ~{DS} (hiz), 21 ~{WR} (hiz), 22 ~{RD} (hiz), 23 D0 (io), 24 D1 (io), 25 D2 (io), 26 D3 (io), 27 D4 (io), 28 D5 (io), 29 D6 (io), 30 D7 (io), 31 D8 (io), 32 D9 (io), 33 D10 (io), 35 D11 (io), 36 D12 (io), 37 D13 (io), 38 D14 (io), 39 D15 (io), 40 GPIOB0 (io), 41 GPIOB1 (io), 42 GPIOB2 (io), 43 GPIOB3 (io), 44 GPIOB4 (io), 45 GPIOB5 (io), 46 GPIOB6 (io), 47 GPIOB7 (io), 49 GPIOD0 (io), 50 GPIOD1 (io), 51 GPIOD2 (io), 52 GPIOD3 (io), 53 GPIOD4 (io), 54 GPIOD5 (io), 55 TXD1/GPIOD6 (io), 56 RXD1/GPIOD7 (io), 57 PWMB0 (hiz), 58 PWMB1 (hiz), 59 PWMB2 (hiz), 60 PWMB3 (hiz), 61 PWMB4 (hiz), 62 PWMB5 (hiz), 64 ISB0 (in), 66 ISB1 (in), 67 ISB2 (in), 69 ~{IRQA} (in), 70 ~{IRQB} (in), 71 FAULTB0 (in), 72 FAULTB1 (in), 73 FAULTB2 (in), 74 FAULTB3 (in), 75 PWMA0 (hiz), 77 PWMA1 (hiz), 78 PWMA2 (hiz), 79 PWMA3 (hiz), 80 PWMA4 (hiz), 81 PWMA5 (hiz), 82 FAULTA0 (in), 83 FAULTA1 (in), 84 FAULTA2 (in), 85 FAULTA3 (in), 86 EXTBOOT (in), 92 XTAL (io), 93 EXTAL (in), 97 ~{RSTO} (out), 98 ~{RESET} (in), 99 VREF, 102 ANA0 (in), 103 ANA1 (in), 104 ANA2 (in), 105 ANA3 (in), 106 ANA4 (in), 107 ANA5 (in), 108 ANA6 (in), 109 ANA7 (in), 110 VREF2, 113 ANB0 (in), 114 ANB1 (in), 115 ANB2 (in), 116 ANB3 (in), 117 ANB4 (in), 118 ANB5 (in), 119 ANB6 (in), 120 ANB7 (in), 121 ~{DE} (out), 123 ISA0 (in), 124 ISA1 (in), 125 ISA2 (in), 126 TD0 (io), 127 TD1 (io), 128 TD2 (io), 129 TD3 (io), 130 TC0 (io), 131 TC1 (io), 132 ~{TRST} (in), 134 TCK (in), 135 TMS (in), 136 TDI (in), 137 TDO (hiz), 139 MSCAN_TX (oc), 142 MSCAN_RX (in), 143 ~{SS}/GPIOE7 (io), 144 SCLK/GPIOE4 (io), 145 MISO/GPIOE6 (io), 146 MOSI/GPIOE5 (io), 147 PHASEA0/TA0 (io), 148 PHASEB0/TA1 (io), 149 INDEX0/TA2 (io), 150 HOME0/TA3 (io), 151 PHASEA1/TB0 (io), 152 PHASEB1/TB1 (io), 154 INDEX1/TB2 (io), 155 HOME1/TB3 (io), 158 CLKO (out), 159 TXD0/GPIOE0 (io), 160 RXD0/GPIOE1 (io)
part B pins: 9 VDD (power), 18 VSS (power), 34 VDD (power), 48 VSS (power), 63 VDD (power), 65 VCAPC1 (power), 68 VPP2, 76 VSS (power), 87 VSSA (power), 88 VDDA (power), 89 VDD (power), 90 VSS (power), 91 VSS (power), 94 VDD (power), 95 VSS (power), 96 VDD (power), 100 VDDA (power), 101 VSSA (power), 111 VDDA (power), 112 VSSA (power), 122 VSS (power), 133 TCS, 138 VCAPC2 (power), 140 VDD (power), 141 VSS (power), 153 VDD (power), 156 VPP, 157 VSS (power)

## DSP56F826BU80
designator U?
16-Bit Digital Signal Controller, 56800E Family, 80MHZ, 64KB Flash, -40° to + 85°C, 100-LQFP; DatasheetVersion: rev14, Jan-2007; PackageVersion: rev4, Jan-2002; PackageReference: 842F-01; PackageDescription: 100-Pin Thin Quad Flat Pack 0.5 mm Pitch; ComponentLink1Description: Manufacturer URL; ComponentLink1URL: http://www.freescale.com/
footprint 842F-01_N (Thin QFP, 100-Leads, Body 14x14mm, Pitch 0.5mm, IPC Medium Density)
footprint 842F-01_L (Thin QFP, 100-Leads, Body 14x14mm, Pitch 0.5mm, IPC High Density)
footprint 842F-01_M (Thin QFP, 100-Leads, Body 14x14mm, Pitch 0.5mm, IPC Low Density)
part A pins: 1 TMS (in), 2 TDI (in), 3 TDO (hiz), 4 ~{TRST} (in), 7 A15/GPIOA7 (io), 8 A14/GPIOA6 (io), 9 A13/GPIOA5 (io), 10 A12/GPIOA4 (io), 11 A11/GPIOA3 (io), 12 A10/GPIOA2 (io), 13 A9/GPIOA1 (io), 14 A8/GPIOA0 (io), 15 A7/GPIOE7 (io), 16 A6/GPIOE6 (io), 17 A5/GPIOE5 (io), 18 A4/GPIOE4 (io), 21 A3/GPIOE3 (io), 22 A2/GPIOE2 (io), 23 A1/GPIOE1 (io), 24 A0/GPIOE0 (io), 25 EXTBOOT (in), 26 ~{RD} (out), 27 ~{WR} (out), 28 ~{DS} (out), 29 ~{PS} (out), 32 ~{IRQA} (in), 33 ~{IRQB} (in), 34 D0 (io), 35 D1 (io), 36 D2 (io), 37 D3 (io), 38 D4 (io), 39 D5 (io), 40 D6 (io), 41 D7 (io), 42 D8 (io), 43 D9 (io), 44 D10 (io), 45 ~{RESET} (in), 46 D11 (io), 47 D12 (io), 48 D13 (io), 49 D14 (io), 50 D15 (io), 51 SRD/GPIOC0 (io), 52 SRFS/GPIOC1 (io), 53 SRCK/GPIOC2 (io), 54 STD/GPIOC3 (io), 55 STFS/GPIOC4 (io), 56 STCK/GPIOC5 (io), 61 EXTAL (in), 62 XTAL/CLOCKIN (io), 65 CLKO (out), 66 GPIOB0 (io), 67 GPIOB1 (io), 68 GPIOB2 (io), 69 GPIOB3 (io), 70 GPIOB4 (io), 71 GPIOB5 (io), 72 GPIOB6 (io), 73 GPIOB7 (io), 74 GPIOD0 (io), 75 GPIOD1 (io), 76 GPIOD2 (io), 77 GPIOD3 (io), 78 GPIOD4 (io), 79 GPIOD5 (io), 82 GPIOD6 (io), 83 GPIOD7 (io), 84 SCLK/GPIOF4 (io), 85 MOSI/GPIOF5 (io), 86 MISO/GPIOF6 (io), 87 ~{SS}/GPIOF7 (io), 88 TA3/GPIOF3 (io), 89 TA2/GPIOF2 (io), 90 TA1/GPIOF1 (io), 91 TA0/GPIOF0 (io), 92 RXD1/~{SS0} (in), 93 TXD1/MISO0 (io), 96 RXD0/MOSI0 (io), 97 TXD0/SCLK0 (io), 98 ~{DE} (out), 100 TCK (in)
part B pins: 5 VDDIO (power), 6 VSSIO (power), 19 VSS (power), 20 VDD (power), 30 VDDIO (power), 31 VSSIO (power), 57 VDDIO (power), 58 VSSIO (power), 59 VDDA (power), 60 VSSA (power), 63 VSS (power), 64 VDD (power), 80 VDDIO (power), 81 VSSIO (power), 94 VDD (power), 95 VSS (power), 99 TCS

## DSP56F826BU80E
designator U?
16-Bit Digital Signal Controller, 56800E Family, 80MHZ, 64KB Flash, -40° to + 85°C, 100-LQFP, ROHS; DatasheetVersion: rev14, Jan-2007; PackageVersion: rev4, Jan-2002; PackageReference: 842F-01; PackageDescription: 100-Pin Thin Quad Flat Pack 0.5 mm Pitch; ComponentLink1Description: Manufacturer URL; ComponentLink1URL: http://www.freescale.com/
footprint 842F-01_N (Thin QFP, 100-Leads, Body 14x14mm, Pitch 0.5mm, IPC Medium Density)
footprint 842F-01_L (Thin QFP, 100-Leads, Body 14x14mm, Pitch 0.5mm, IPC High Density)
footprint 842F-01_M (Thin QFP, 100-Leads, Body 14x14mm, Pitch 0.5mm, IPC Low Density)
part A pins: 1 TMS (in), 2 TDI (in), 3 TDO (hiz), 4 ~{TRST} (in), 7 A15/GPIOA7 (io), 8 A14/GPIOA6 (io), 9 A13/GPIOA5 (io), 10 A12/GPIOA4 (io), 11 A11/GPIOA3 (io), 12 A10/GPIOA2 (io), 13 A9/GPIOA1 (io), 14 A8/GPIOA0 (io), 15 A7/GPIOE7 (io), 16 A6/GPIOE6 (io), 17 A5/GPIOE5 (io), 18 A4/GPIOE4 (io), 21 A3/GPIOE3 (io), 22 A2/GPIOE2 (io), 23 A1/GPIOE1 (io), 24 A0/GPIOE0 (io), 25 EXTBOOT (in), 26 ~{RD} (out), 27 ~{WR} (out), 28 ~{DS} (out), 29 ~{PS} (out), 32 ~{IRQA} (in), 33 ~{IRQB} (in), 34 D0 (io), 35 D1 (io), 36 D2 (io), 37 D3 (io), 38 D4 (io), 39 D5 (io), 40 D6 (io), 41 D7 (io), 42 D8 (io), 43 D9 (io), 44 D10 (io), 45 ~{RESET} (in), 46 D11 (io), 47 D12 (io), 48 D13 (io), 49 D14 (io), 50 D15 (io), 51 SRD/GPIOC0 (io), 52 SRFS/GPIOC1 (io), 53 SRCK/GPIOC2 (io), 54 STD/GPIOC3 (io), 55 STFS/GPIOC4 (io), 56 STCK/GPIOC5 (io), 61 EXTAL (in), 62 XTAL/CLOCKIN (io), 65 CLKO (out), 66 GPIOB0 (io), 67 GPIOB1 (io), 68 GPIOB2 (io), 69 GPIOB3 (io), 70 GPIOB4 (io), 71 GPIOB5 (io), 72 GPIOB6 (io), 73 GPIOB7 (io), 74 GPIOD0 (io), 75 GPIOD1 (io), 76 GPIOD2 (io), 77 GPIOD3 (io), 78 GPIOD4 (io), 79 GPIOD5 (io), 82 GPIOD6 (io), 83 GPIOD7 (io), 84 SCLK/GPIOF4 (io), 85 MOSI/GPIOF5 (io), 86 MISO/GPIOF6 (io), 87 ~{SS}/GPIOF7 (io), 88 TA3/GPIOF3 (io), 89 TA2/GPIOF2 (io), 90 TA1/GPIOF1 (io), 91 TA0/GPIOF0 (io), 92 RXD1/~{SS0} (in), 93 TXD1/MISO0 (io), 96 RXD0/MOSI0 (io), 97 TXD0/SCLK0 (io), 98 ~{DE} (out), 100 TCK (in)
part B pins: 5 VDDIO (power), 6 VSSIO (power), 19 VSS (power), 20 VDD (power), 30 VDDIO (power), 31 VSSIO (power), 57 VDDIO (power), 58 VSSIO (power), 59 VDDA (power), 60 VSSA (power), 63 VSS (power), 64 VDD (power), 80 VDDIO (power), 81 VSSIO (power), 94 VDD (power), 95 VSS (power), 99 TCS

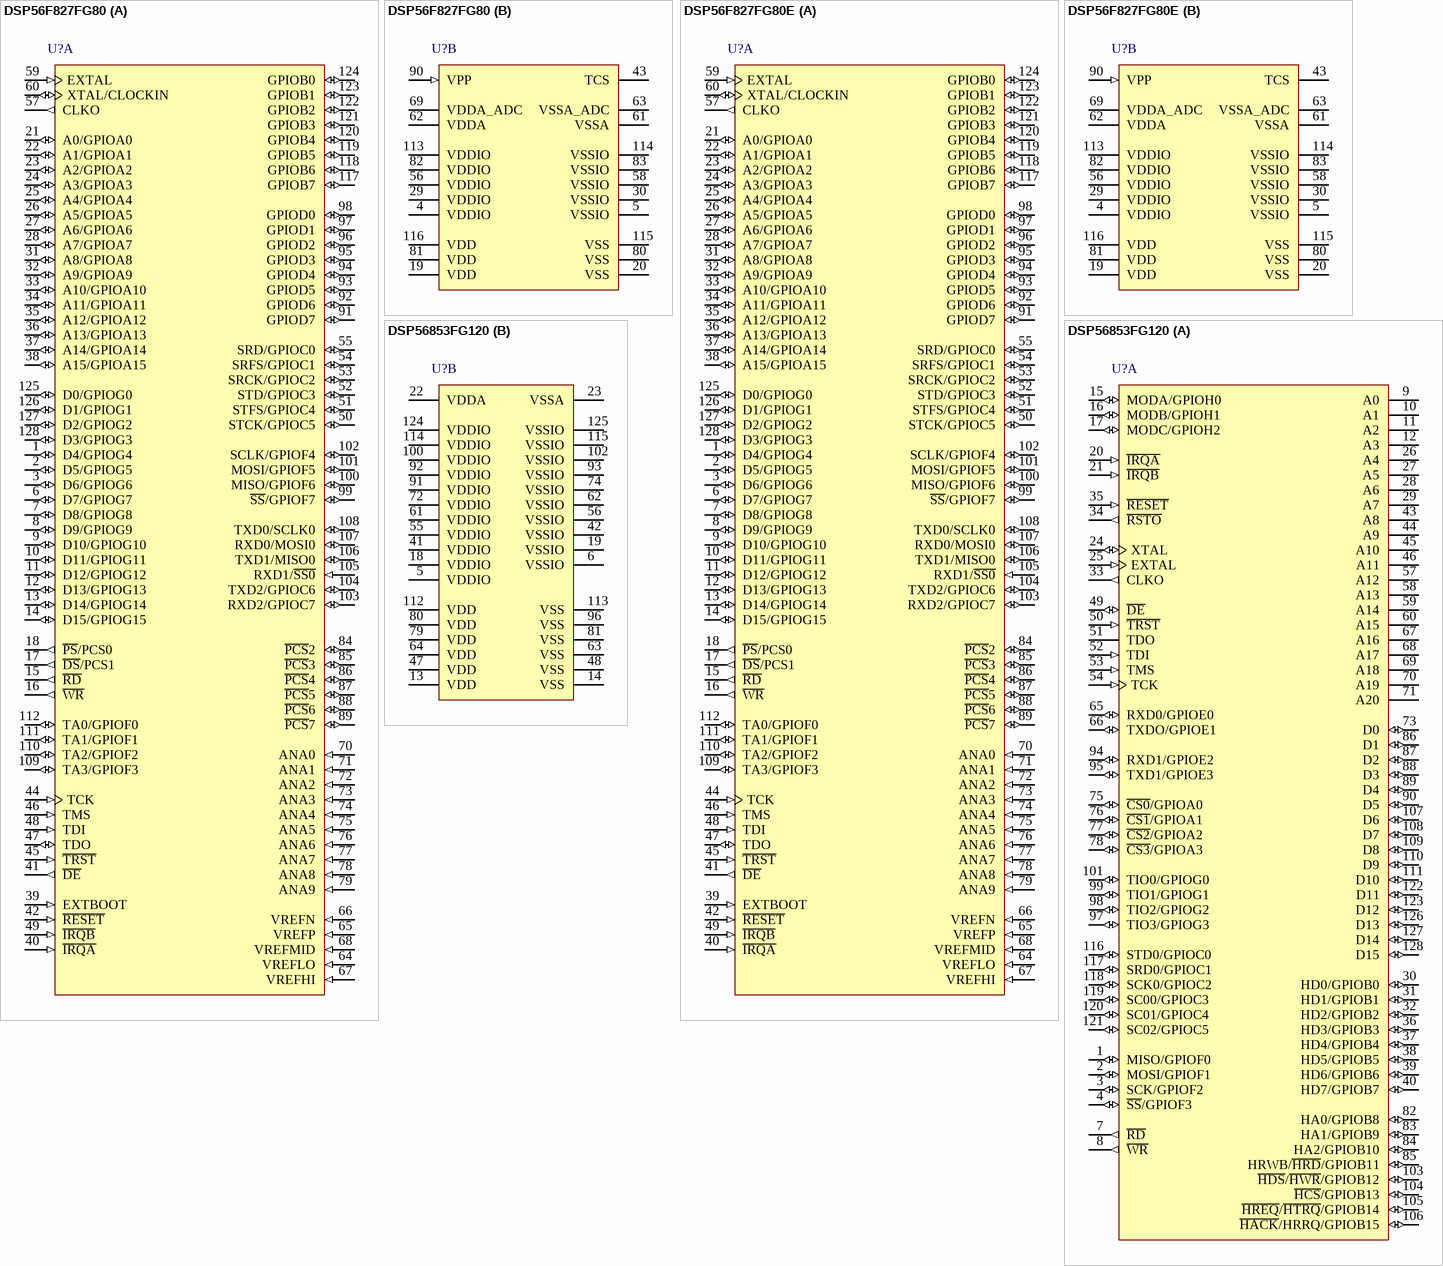
[diagram p4: symbols DSP56F827FG80 to DSP56853FG120]

## DSP56F827FG80
designator U?
16-Bit Digital Signal Controller, 56800E Family, 80MHZ, 128KB Flash, -40° to + 85°C, 128-LQFP; DatasheetVersion: rev12, Jan-2007; PackageVersion: 12/12/1994; PackageReference: 1129-01; PackageDescription: 128-Pin Thin Quad Flat Pack Rectangular 0.5 mm Pitch; ComponentLink1Description: Manufacturer URL; ComponentLink1URL: http://www.freescale.com/
footprint 1129-01_N (Thin QFP, 128-Leads, Body 20x14 mm, Pitch 0.5mm, IPC Medium Density)
footprint 1129-01_L (Thin QFP, 128-Leads, Body 20x14 mm, Pitch 0.5mm, IPC High Density)
footprint 1129-01_M (Thin QFP, 128-Leads, Body 20x14 mm, Pitch 0.5mm, IPC Low Density)
part A pins: 1 D4/GPIOG4 (io), 2 D5/GPIOG5 (io), 3 D6/GPIOG6 (io), 6 D7/GPIOG7 (io), 7 D8/GPIOG8 (io), 8 D9/GPIOG9 (io), 9 D10/GPIOG10 (io), 10 D11/GPIOG11 (io), 11 D12/GPIOG12 (io), 12 D13/GPIOG13 (io), 13 D14/GPIOG14 (io), 14 D15/GPIOG15 (io), 15 ~{RD} (out), 16 ~{WR} (out), 17 ~{DS}/PCS1 (out), 18 ~{PS}/PCS0 (out), 21 A0/GPIOA0 (io), 22 A1/GPIOA1 (io), 23 A2/GPIOA2 (io), 24 A3/GPIOA3 (io), 25 A4/GPIOA4 (io), 26 A5/GPIOA5 (io), 27 A6/GPIOA6 (io), 28 A7/GPIOA7 (io), 31 A8/GPIOA8 (io), 32 A9/GPIOA9 (io), 33 A10/GPIOA10 (io), 34 A11/GPIOA11 (io), 35 A12/GPIOA12 (io), 36 A13/GPIOA13 (io), 37 A14/GPIOA14 (io), 38 A15/GPIOA15 (io), 39 EXTBOOT (in), 40 ~{IRQA} (in), 41 ~{DE} (out), 42 ~{RESET} (in), 44 TCK (in), 45 ~{TRST} (in), 46 TMS (in), 47 TDO (io), 48 TDI (in), 49 ~{IRQB} (in), 50 STCK/GPIOC5 (io), 51 STFS/GPIOC4 (io), 52 STD/GPIOC3 (io), 53 SRCK/GPIOC2 (io), 54 SRFS/GPIOC1 (io), 55 SRD/GPIOC0 (io), 57 CLKO (out), 59 EXTAL (in), 60 XTAL/CLOCKIN (io), 64 VREFLO (in), 65 VREFP (in), 66 VREFN (in), 67 VREFHI (in), 68 VREFMID (in), 70 ANA0 (in), 71 ANA1 (in), 72 ANA2 (in), 73 ANA3 (in), 74 ANA4 (in), 75 ANA5 (in), 76 ANA6 (in), 77 ANA7 (in), 78 ANA8 (in), 79 ANA9 (in), 84 ~{PCS}2 (io), 85 ~{PCS}3 (io), 86 ~{PCS}4 (io), 87 ~{PCS}5 (io), 88 ~{PCS}6 (io), 89 ~{PCS}7 (io), 91 GPIOD7 (io), 92 GPIOD6 (io), 93 GPIOD5 (io), 94 GPIOD4 (io), 95 GPIOD3 (io), 96 GPIOD2 (io), 97 GPIOD1 (io), 98 GPIOD0 (io), 99 ~{SS}/GPIOF7 (io), 100 MISO/GPIOF6 (io), 101 MOSI/GPIOF5 (io), 102 SCLK/GPIOF4 (io), 103 RXD2/GPIOC7 (io), 104 TXD2/GPIOC6 (io), 105 RXD1/~{SS0} (in), 106 TXD1/MISO0 (io), 107 RXD0/MOSI0 (io), 108 TXD0/SCLK0 (io), 109 TA3/GPIOF3 (io), 110 TA2/GPIOF2 (io), 111 TA1/GPIOF1 (io), 112 TA0/GPIOF0 (io), 117 GPIOB7 (io), 118 GPIOB6 (io), 119 GPIOB5 (io), 120 GPIOB4 (io), 121 GPIOB3 (io), 122 GPIOB2 (io), 123 GPIOB1 (io), 124 GPIOB0 (io), 125 D0/GPIOG0 (io), 126 D1/GPIOG1 (io), 127 D2/GPIOG2 (io), 128 D3/GPIOG3 (io)
part B pins: 4 VDDIO (power), 5 VSSIO (power), 19 VDD (power), 20 VSS (power), 29 VDDIO (power), 30 VSSIO (power), 43 TCS, 56 VDDIO (power), 58 VSSIO (power), 61 VSSA (power), 62 VDDA (power), 63 VSSA_ADC (power), 69 VDDA_ADC (power), 80 VSS (power), 81 VDD (power), 82 VDDIO (power), 83 VSSIO (power), 90 VPP (in), 113 VDDIO (power), 114 VSSIO (power), 115 VSS (power), 116 VDD (power)

## DSP56F827FG80E
designator U?
16-Bit Digital Signal Controller, 56800E Family, 80MHZ, 128KB Flash, -40° to + 85°C, 128-LQFP, ROHS; DatasheetVersion: rev12, Jan-2007; PackageVersion: 12/12/1994; PackageReference: 1129-01; PackageDescription: 128-Pin Thin Quad Flat Pack Rectangular 0.5 mm Pitch; ComponentLink1Description: Manufacturer URL; ComponentLink1URL: http://www.freescale.com/
footprint 1129-01_N (Thin QFP, 128-Leads, Body 20x14 mm, Pitch 0.5mm, IPC Medium Density)
footprint 1129-01_L (Thin QFP, 128-Leads, Body 20x14 mm, Pitch 0.5mm, IPC High Density)
footprint 1129-01_M (Thin QFP, 128-Leads, Body 20x14 mm, Pitch 0.5mm, IPC Low Density)
part A pins: 1 D4/GPIOG4 (io), 2 D5/GPIOG5 (io), 3 D6/GPIOG6 (io), 6 D7/GPIOG7 (io), 7 D8/GPIOG8 (io), 8 D9/GPIOG9 (io), 9 D10/GPIOG10 (io), 10 D11/GPIOG11 (io), 11 D12/GPIOG12 (io), 12 D13/GPIOG13 (io), 13 D14/GPIOG14 (io), 14 D15/GPIOG15 (io), 15 ~{RD} (out), 16 ~{WR} (out), 17 ~{DS}/PCS1 (out), 18 ~{PS}/PCS0 (out), 21 A0/GPIOA0 (io), 22 A1/GPIOA1 (io), 23 A2/GPIOA2 (io), 24 A3/GPIOA3 (io), 25 A4/GPIOA4 (io), 26 A5/GPIOA5 (io), 27 A6/GPIOA6 (io), 28 A7/GPIOA7 (io), 31 A8/GPIOA8 (io), 32 A9/GPIOA9 (io), 33 A10/GPIOA10 (io), 34 A11/GPIOA11 (io), 35 A12/GPIOA12 (io), 36 A13/GPIOA13 (io), 37 A14/GPIOA14 (io), 38 A15/GPIOA15 (io), 39 EXTBOOT (in), 40 ~{IRQA} (in), 41 ~{DE} (out), 42 ~{RESET} (in), 44 TCK (in), 45 ~{TRST} (in), 46 TMS (in), 47 TDO (io), 48 TDI (in), 49 ~{IRQB} (in), 50 STCK/GPIOC5 (io), 51 STFS/GPIOC4 (io), 52 STD/GPIOC3 (io), 53 SRCK/GPIOC2 (io), 54 SRFS/GPIOC1 (io), 55 SRD/GPIOC0 (io), 57 CLKO (out), 59 EXTAL (in), 60 XTAL/CLOCKIN (io), 64 VREFLO (in), 65 VREFP (in), 66 VREFN (in), 67 VREFHI (in), 68 VREFMID (in), 70 ANA0 (in), 71 ANA1 (in), 72 ANA2 (in), 73 ANA3 (in), 74 ANA4 (in), 75 ANA5 (in), 76 ANA6 (in), 77 ANA7 (in), 78 ANA8 (in), 79 ANA9 (in), 84 ~{PCS}2 (io), 85 ~{PCS}3 (io), 86 ~{PCS}4 (io), 87 ~{PCS}5 (io), 88 ~{PCS}6 (io), 89 ~{PCS}7 (io), 91 GPIOD7 (io), 92 GPIOD6 (io), 93 GPIOD5 (io), 94 GPIOD4 (io), 95 GPIOD3 (io), 96 GPIOD2 (io), 97 GPIOD1 (io), 98 GPIOD0 (io), 99 ~{SS}/GPIOF7 (io), 100 MISO/GPIOF6 (io), 101 MOSI/GPIOF5 (io), 102 SCLK/GPIOF4 (io), 103 RXD2/GPIOC7 (io), 104 TXD2/GPIOC6 (io), 105 RXD1/~{SS0} (in), 106 TXD1/MISO0 (io), 107 RXD0/MOSI0 (io), 108 TXD0/SCLK0 (io), 109 TA3/GPIOF3 (io), 110 TA2/GPIOF2 (io), 111 TA1/GPIOF1 (io), 112 TA0/GPIOF0 (io), 117 GPIOB7 (io), 118 GPIOB6 (io), 119 GPIOB5 (io), 120 GPIOB4 (io), 121 GPIOB3 (io), 122 GPIOB2 (io), 123 GPIOB1 (io), 124 GPIOB0 (io), 125 D0/GPIOG0 (io), 126 D1/GPIOG1 (io), 127 D2/GPIOG2 (io), 128 D3/GPIOG3 (io)
part B pins: 4 VDDIO (power), 5 VSSIO (power), 19 VDD (power), 20 VSS (power), 29 VDDIO (power), 30 VSSIO (power), 43 TCS, 56 VDDIO (power), 58 VSSIO (power), 61 VSSA (power), 62 VDDA (power), 63 VSSA_ADC (power), 69 VDDA_ADC (power), 80 VSS (power), 81 VDD (power), 82 VDDIO (power), 83 VSSIO (power), 90 VPP (in), 113 VDDIO (power), 114 VSSIO (power), 115 VSS (power), 116 VDD (power)

## DSP56853FG120
designator U?
16-Bit Digital Signal Controller, 56800E Family, 120MHz, 12K Program SRAM, 4K Data SRAM, -40° to + 85°C, 128-Pin LQFP; DatasheetVersion: rev6, Jan-2007; PackageVersion: 12/12/1994; PackageReference: 1129-01; PackageDescription: 128-Pin Thin Quad Flat Pack Rectangular 0.5 mm Pitch; ComponentLink1Description: Manufacturer URL; ComponentLink1URL: http://www.freescale.com/
footprint 1129-01_N (Thin QFP, 128-Leads, Body 20x14 mm, Pitch 0.5mm, IPC Medium Density)
footprint 1129-01_L (Thin QFP, 128-Leads, Body 20x14 mm, Pitch 0.5mm, IPC High Density)
footprint 1129-01_M (Thin QFP, 128-Leads, Body 20x14 mm, Pitch 0.5mm, IPC Low Density)
part A pins: 1 MISO/GPIOF0 (io), 2 MOSI/GPIOF1 (io), 3 SCK/GPIOF2 (io), 4 ~{SS}/GPIOF3 (io), 7 ~{RD} (out), 8 ~{WR} (out), 9 A0 (hiz), 10 A1 (hiz), 11 A2 (hiz), 12 A3 (hiz), 15 MODA/GPIOH0 (io), 16 MODB/GPIOH1 (io), 17 MODC/GPIOH2 (io), 20 ~{IRQA} (in), 21 ~{IRQB} (in), 24 XTAL (io), 25 EXTAL (in), 26 A4 (hiz), 27 A5 (hiz), 28 A6 (hiz), 29 A7 (hiz), 30 HD0/GPIOB0 (io), 31 HD1/GPIOB1 (io), 32 HD2/GPIOB2 (io), 33 CLKO (out), 34 ~{RSTO} (out), 35 ~{RESET} (in), 36 HD3/GPIOB3 (io), 37 HD4/GPIOB4 (io), 38 HD5/GPIOB5 (io), 39 HD6/GPIOB6 (io), 40 HD7/GPIOB7 (io), 43 A8 (hiz), 44 A9 (hiz), 45 A10 (hiz), 46 A11 (hiz), 49 ~{DE} (io), 50 ~{TRST} (in), 51 TDO (hiz), 52 TDI (in), 53 TMS (in), 54 TCK (in), 57 A12 (hiz), 58 A13 (hiz), 59 A14 (hiz), 60 A15 (hiz), 65 RXD0/GPIOE0 (io), 66 TXDO/GPIOE1 (io), 67 A16 (hiz), 68 A17 (hiz), 69 A18 (hiz), 70 A19 (hiz), 71 A20 (hiz), 73 D0 (io), 75 ~{CS0}/GPIOA0 (io), 76 ~{CS1}/GPIOA1 (io), 77 ~{CS2}/GPIOA2 (io), 78 ~{CS3}/GPIOA3 (io), 82 HA0/GPIOB8 (io), 83 HA1/GPIOB9 (io), 84 HA2/GPIOB10 (io), 85 HRWB/~{HRD}/GPIOB11 (io), 86 D1 (io), 87 D2 (io), 88 D3 (io), 89 D4 (io), 90 D5 (io), 94 RXD1/GPIOE2 (io), 95 TXD1/GPIOE3 (io), 97 TIO3/GPIOG3 (io), 98 TIO2/GPIOG2 (io), 99 TIO1/GPIOG1 (io), 101 TIO0/GPIOG0 (io), 103 ~{HDS}/~{HWR}/GPIOB12 (io), 104 ~{HCS}/GPIOB13 (io), 105 ~{HREQ}/~{HTRQ}/GPIOB14 (io), 106 ~{HACK}/HRRQ/GPIOB15 (io), 107 D6 (io), 108 D7 (io), 109 D8 (io), 110 D9 (io), 111 D10 (io), 116 STD0/GPIOC0 (io), 117 SRD0/GPIOC1 (io), 118 SCK0/GPIOC2 (io), 119 SC00/GPIOC3 (io), 120 SC01/GPIOC4 (io), 121 SC02/GPIOC5 (io), 122 D11 (io), 123 D12 (io), 126 D13 (io), 127 D14 (io), 128 D15 (io)
part B pins: 5 VDDIO (power), 6 VSSIO (power), 13 VDD (power), 14 VSS (power), 18 VDDIO (power), 19 VSSIO (power), 22 VDDA (power), 23 VSSA (power), 41 VDDIO (power), 42 VSSIO (power), 47 VDD (power), 48 VSS (power), 55 VDDIO (power), 56 VSSIO (power), 61 VDDIO (power), 62 VSSIO (power), 63 VSS (power), 64 VDD (power), 72 VDDIO (power), 74 VSSIO (power), 79 VDD (power), 80 VDD (power), 81 VSS (power), 91 VDDIO (power), 92 VDDIO (power), 93 VSSIO (power), 96 VSS (power), 100 VDDIO (power), 102 VSSIO (power), 112 VDD (power), 113 VSS (power), 114 VDDIO (power), 115 VSSIO (power), 124 VDDIO (power), 125 VSSIO (power)

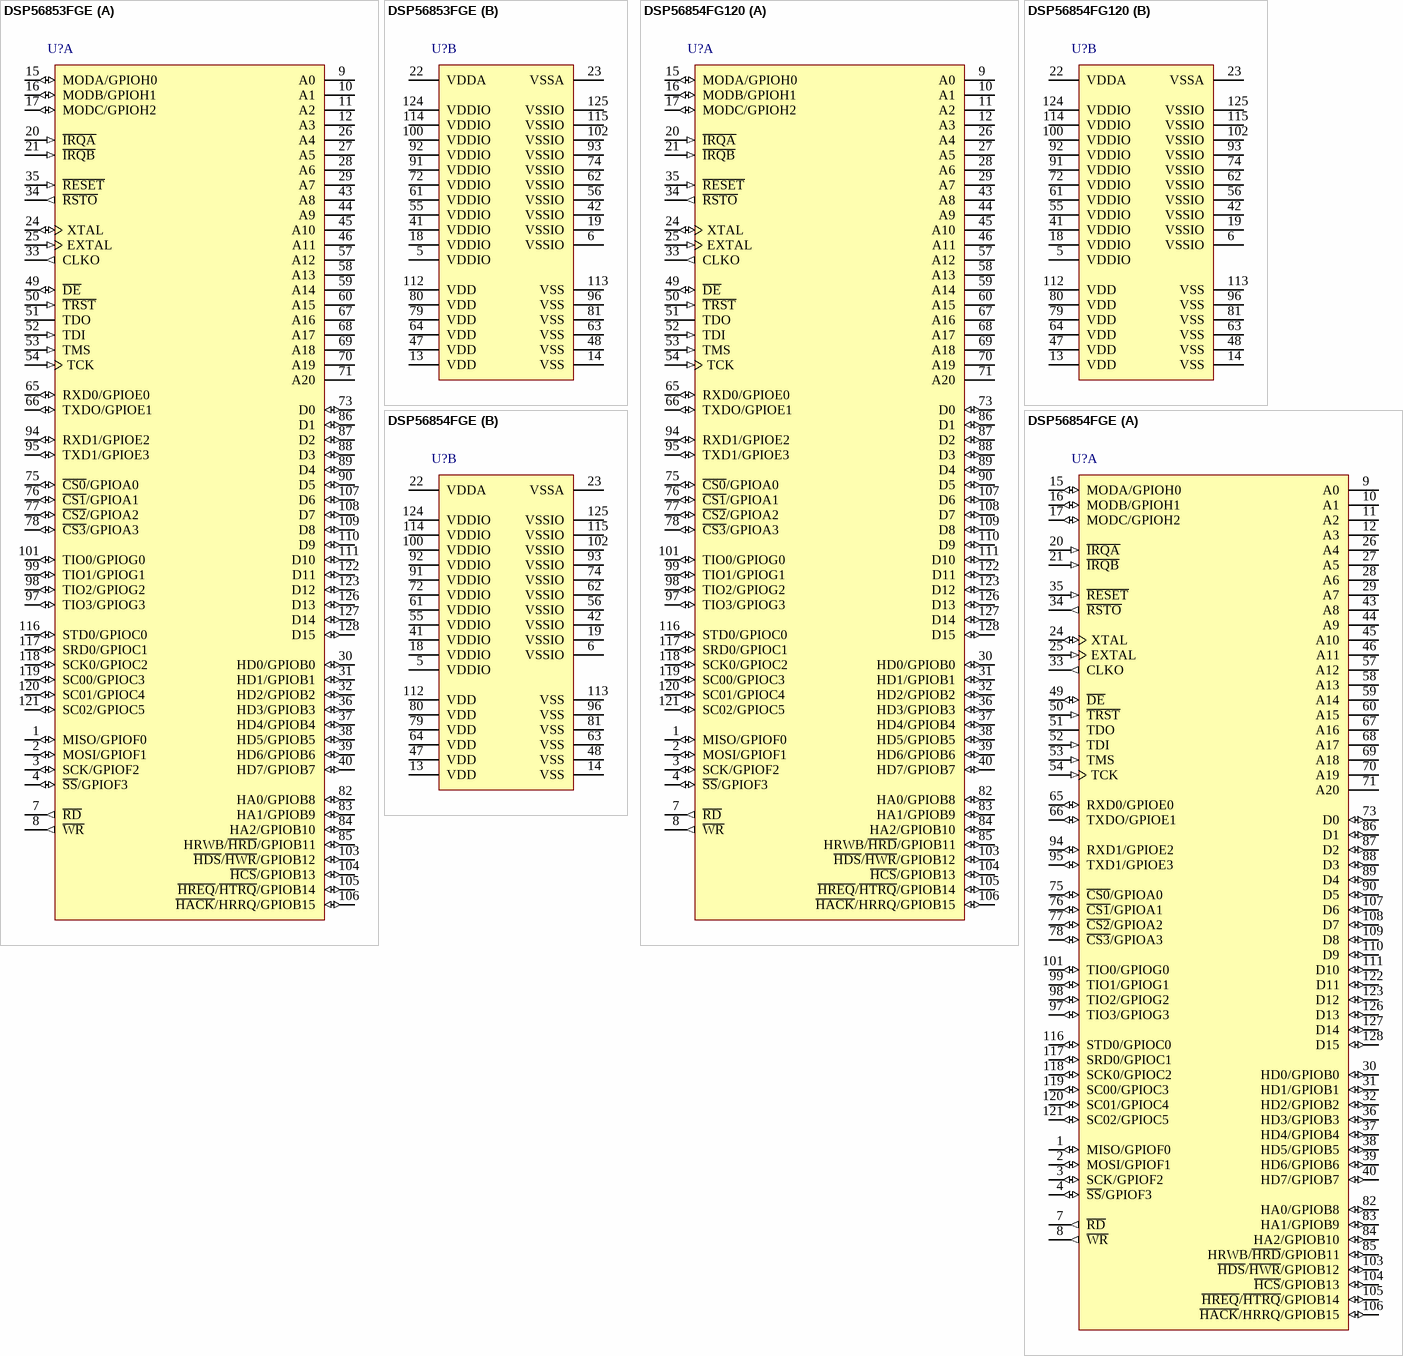
[diagram p5: symbols DSP56853FGE to DSP56854FGE]

## DSP56853FGE
designator U?
16-Bit Digital Signal Controller, 56800E Family, 120MHz, 12K Program SRAM, 4K Data SRAM, -40° to + 85°C, 128-Pin LQFP, ROHS; DatasheetVersion: rev6, Jan-2007; PackageVersion: 12/12/1994; PackageReference: 1129-01; PackageDescription: 128-Pin Thin Quad Flat Pack Rectangular 0.5 mm Pitch; ComponentLink1Description: Manufacturer URL; ComponentLink1URL: http://www.freescale.com/
footprint 1129-01_N (Thin QFP, 128-Leads, Body 20x14 mm, Pitch 0.5mm, IPC Medium Density)
footprint 1129-01_L (Thin QFP, 128-Leads, Body 20x14 mm, Pitch 0.5mm, IPC High Density)
footprint 1129-01_M (Thin QFP, 128-Leads, Body 20x14 mm, Pitch 0.5mm, IPC Low Density)
part A pins: 1 MISO/GPIOF0 (io), 2 MOSI/GPIOF1 (io), 3 SCK/GPIOF2 (io), 4 ~{SS}/GPIOF3 (io), 7 ~{RD} (out), 8 ~{WR} (out), 9 A0 (hiz), 10 A1 (hiz), 11 A2 (hiz), 12 A3 (hiz), 15 MODA/GPIOH0 (io), 16 MODB/GPIOH1 (io), 17 MODC/GPIOH2 (io), 20 ~{IRQA} (in), 21 ~{IRQB} (in), 24 XTAL (io), 25 EXTAL (in), 26 A4 (hiz), 27 A5 (hiz), 28 A6 (hiz), 29 A7 (hiz), 30 HD0/GPIOB0 (io), 31 HD1/GPIOB1 (io), 32 HD2/GPIOB2 (io), 33 CLKO (out), 34 ~{RSTO} (out), 35 ~{RESET} (in), 36 HD3/GPIOB3 (io), 37 HD4/GPIOB4 (io), 38 HD5/GPIOB5 (io), 39 HD6/GPIOB6 (io), 40 HD7/GPIOB7 (io), 43 A8 (hiz), 44 A9 (hiz), 45 A10 (hiz), 46 A11 (hiz), 49 ~{DE} (io), 50 ~{TRST} (in), 51 TDO (hiz), 52 TDI (in), 53 TMS (in), 54 TCK (in), 57 A12 (hiz), 58 A13 (hiz), 59 A14 (hiz), 60 A15 (hiz), 65 RXD0/GPIOE0 (io), 66 TXDO/GPIOE1 (io), 67 A16 (hiz), 68 A17 (hiz), 69 A18 (hiz), 70 A19 (hiz), 71 A20 (hiz), 73 D0 (io), 75 ~{CS0}/GPIOA0 (io), 76 ~{CS1}/GPIOA1 (io), 77 ~{CS2}/GPIOA2 (io), 78 ~{CS3}/GPIOA3 (io), 82 HA0/GPIOB8 (io), 83 HA1/GPIOB9 (io), 84 HA2/GPIOB10 (io), 85 HRWB/~{HRD}/GPIOB11 (io), 86 D1 (io), 87 D2 (io), 88 D3 (io), 89 D4 (io), 90 D5 (io), 94 RXD1/GPIOE2 (io), 95 TXD1/GPIOE3 (io), 97 TIO3/GPIOG3 (io), 98 TIO2/GPIOG2 (io), 99 TIO1/GPIOG1 (io), 101 TIO0/GPIOG0 (io), 103 ~{HDS}/~{HWR}/GPIOB12 (io), 104 ~{HCS}/GPIOB13 (io), 105 ~{HREQ}/~{HTRQ}/GPIOB14 (io), 106 ~{HACK}/HRRQ/GPIOB15 (io), 107 D6 (io), 108 D7 (io), 109 D8 (io), 110 D9 (io), 111 D10 (io), 116 STD0/GPIOC0 (io), 117 SRD0/GPIOC1 (io), 118 SCK0/GPIOC2 (io), 119 SC00/GPIOC3 (io), 120 SC01/GPIOC4 (io), 121 SC02/GPIOC5 (io), 122 D11 (io), 123 D12 (io), 126 D13 (io), 127 D14 (io), 128 D15 (io)
part B pins: 5 VDDIO (power), 6 VSSIO (power), 13 VDD (power), 14 VSS (power), 18 VDDIO (power), 19 VSSIO (power), 22 VDDA (power), 23 VSSA (power), 41 VDDIO (power), 42 VSSIO (power), 47 VDD (power), 48 VSS (power), 55 VDDIO (power), 56 VSSIO (power), 61 VDDIO (power), 62 VSSIO (power), 63 VSS (power), 64 VDD (power), 72 VDDIO (power), 74 VSSIO (power), 79 VDD (power), 80 VDD (power), 81 VSS (power), 91 VDDIO (power), 92 VDDIO (power), 93 VSSIO (power), 96 VSS (power), 100 VDDIO (power), 102 VSSIO (power), 112 VDD (power), 113 VSS (power), 114 VDDIO (power), 115 VSSIO (power), 124 VDDIO (power), 125 VSSIO (power)

## DSP56854FG120
designator U?
16-Bit Digital Signal Controller, 56800E Family, 120MHz, 16K Program SRAM, 16K Data SRAM, -40° to + 85°C, 128-Pin LQFP; DatasheetVersion: rev6, Jan-2007; PackageVersion: 12/12/1994; PackageReference: 1129-01; PackageDescription: 128-Pin Thin Quad Flat Pack Rectangular 0.5 mm Pitch; ComponentLink1Description: Manufacturer URL; ComponentLink1URL: http://www.freescale.com/
footprint 1129-01_N (Thin QFP, 128-Leads, Body 20x14 mm, Pitch 0.5mm, IPC Medium Density)
footprint 1129-01_L (Thin QFP, 128-Leads, Body 20x14 mm, Pitch 0.5mm, IPC High Density)
footprint 1129-01_M (Thin QFP, 128-Leads, Body 20x14 mm, Pitch 0.5mm, IPC Low Density)
part A pins: 1 MISO/GPIOF0 (io), 2 MOSI/GPIOF1 (io), 3 SCK/GPIOF2 (io), 4 ~{SS}/GPIOF3 (io), 7 ~{RD} (out), 8 ~{WR} (out), 9 A0 (hiz), 10 A1 (hiz), 11 A2 (hiz), 12 A3 (hiz), 15 MODA/GPIOH0 (io), 16 MODB/GPIOH1 (io), 17 MODC/GPIOH2 (io), 20 ~{IRQA} (in), 21 ~{IRQB} (in), 24 XTAL (io), 25 EXTAL (in), 26 A4 (hiz), 27 A5 (hiz), 28 A6 (hiz), 29 A7 (hiz), 30 HD0/GPIOB0 (io), 31 HD1/GPIOB1 (io), 32 HD2/GPIOB2 (io), 33 CLKO (out), 34 ~{RSTO} (out), 35 ~{RESET} (in), 36 HD3/GPIOB3 (io), 37 HD4/GPIOB4 (io), 38 HD5/GPIOB5 (io), 39 HD6/GPIOB6 (io), 40 HD7/GPIOB7 (io), 43 A8 (hiz), 44 A9 (hiz), 45 A10 (hiz), 46 A11 (hiz), 49 ~{DE} (io), 50 ~{TRST} (in), 51 TDO (hiz), 52 TDI (in), 53 TMS (in), 54 TCK (in), 57 A12 (hiz), 58 A13 (hiz), 59 A14 (hiz), 60 A15 (hiz), 65 RXD0/GPIOE0 (io), 66 TXDO/GPIOE1 (io), 67 A16 (hiz), 68 A17 (hiz), 69 A18 (hiz), 70 A19 (hiz), 71 A20 (hiz), 73 D0 (io), 75 ~{CS0}/GPIOA0 (io), 76 ~{CS1}/GPIOA1 (io), 77 ~{CS2}/GPIOA2 (io), 78 ~{CS3}/GPIOA3 (io), 82 HA0/GPIOB8 (io), 83 HA1/GPIOB9 (io), 84 HA2/GPIOB10 (io), 85 HRWB/~{HRD}/GPIOB11 (io), 86 D1 (io), 87 D2 (io), 88 D3 (io), 89 D4 (io), 90 D5 (io), 94 RXD1/GPIOE2 (io), 95 TXD1/GPIOE3 (io), 97 TIO3/GPIOG3 (io), 98 TIO2/GPIOG2 (io), 99 TIO1/GPIOG1 (io), 101 TIO0/GPIOG0 (io), 103 ~{HDS}/~{HWR}/GPIOB12 (io), 104 ~{HCS}/GPIOB13 (io), 105 ~{HREQ}/~{HTRQ}/GPIOB14 (io), 106 ~{HACK}/HRRQ/GPIOB15 (io), 107 D6 (io), 108 D7 (io), 109 D8 (io), 110 D9 (io), 111 D10 (io), 116 STD0/GPIOC0 (io), 117 SRD0/GPIOC1 (io), 118 SCK0/GPIOC2 (io), 119 SC00/GPIOC3 (io), 120 SC01/GPIOC4 (io), 121 SC02/GPIOC5 (io), 122 D11 (io), 123 D12 (io), 126 D13 (io), 127 D14 (io), 128 D15 (io)
part B pins: 5 VDDIO (power), 6 VSSIO (power), 13 VDD (power), 14 VSS (power), 18 VDDIO (power), 19 VSSIO (power), 22 VDDA (power), 23 VSSA (power), 41 VDDIO (power), 42 VSSIO (power), 47 VDD (power), 48 VSS (power), 55 VDDIO (power), 56 VSSIO (power), 61 VDDIO (power), 62 VSSIO (power), 63 VSS (power), 64 VDD (power), 72 VDDIO (power), 74 VSSIO (power), 79 VDD (power), 80 VDD (power), 81 VSS (power), 91 VDDIO (power), 92 VDDIO (power), 93 VSSIO (power), 96 VSS (power), 100 VDDIO (power), 102 VSSIO (power), 112 VDD (power), 113 VSS (power), 114 VDDIO (power), 115 VSSIO (power), 124 VDDIO (power), 125 VSSIO (power)